# Altium integrated library Motorola Microcontroller 32-Bit.IntLib: 337 symbols (part 3 of 29)
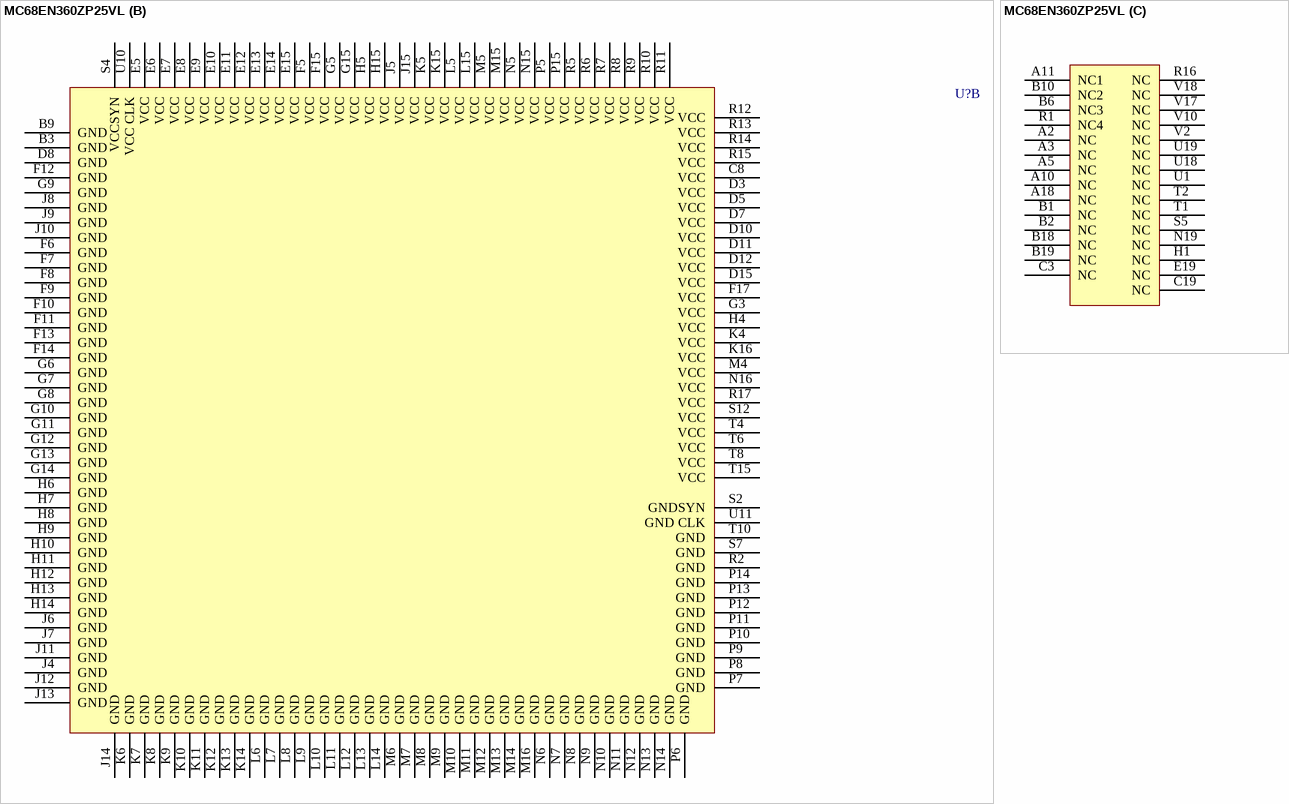
[diagram p242: symbol MC68EN360ZP25VL]

## MC68EN360ZP25VL
designator U?
Quad Integrated Communication Controller; Note: Footprint departs from the JEDEC JC-11 standard. The letter 's' is used to mark one of the rows.; Published: 21-Mar-2003; LatestRevisionDate: 13-Apr-2006; LatestRevisionNote: IPC-7351 Footprint Added.; DatasheetVersion: Jan-1995; PackageVersion: Sep-2002; PackageReference: 1103-01A; Publisher: Altium Limited; PackageDescription: 357-Ball Ball Grid Array 1.27 mm Pitch; ComponentLink1Description: Manufacturer Link; ComponentLink1URL: http://www.freescale.com/; ComponentLink2Description: Datasheet; ComponentLink2URL: http://www.freescale.com/files/32bit/doc/data_sheet/MC68360.pdf
footprint 1103-01 (BGA, 357-Leads, Body 25x25mm, Pitch 1.27mm)
3D model MC68EN360-1103-01 (357-Ball Ball Grid Array 1.27 mm Pitch)
part A pins: A4 ~{CAS}1/~{IACK}2 (out), A6 ~{DSACK}0/~{TB}I (io), A7 PRTY2/~{IOUT}0/~{RQOUT} (io), A8 PRTY0/~{IOUT}2 (io), A9 ~{IPIPE}1/~{RAS1DD}/~{BCLRI} (io), A12 ~{BR} (in), A13 ~{IRQ}4/~{IOUT}1 (io), A14 ~{RESETH} (io), A15 TDI (in), A16 ~{RMC}/CONFIG0/~{LOCK} (in), A17 ~{BERR}/~{TEA} (io), B4 ~{CAS}2/~{IACK}3 (out), B5 FREEZE/CONFIG2/~{MBARE} (out), B7 PRTY3/16~{BM} (io), B8 PRTY1/~{IOUT}1 (io), B11 ~{OE}/AMUX (out), B12 ~{BG} (io), B13 ~{IRQ}6/~{IOUT}2 (io), B14 ~{TRST} (in), B15 TDO (hiz), B16 ~{RESET}S (io), B17 ~{IRQ}1/~{IOUT}0/~{RQOUT} (io), C1 ~{CS}2/~{RAS}2 (io), C2 ~{CS}1/~{RAS}1 (io), C4 ~{CAS}3/~{IACK}6 (out), C5 ~{CAS}0/~{IACK}1 (out), C6 R/~{W} (out), C7 ~{DSACK}1/~{TA} (io), C9 ~{AS} (io), C10 ~{BCLRO}/CONFIG1/~{RAS2DD} (io), C11 ~{IFETCH}/BADD3/DSI (io), C12 ~{BGACK}/~{BB} (io), C13 ~{BKPT}/~{BKPTO}/DSCLK (io), C14 TMS (in), C15 ~{AVEC}/~{IACK}5/~{AVECO} (io), C16 ~{HALT} (io), C17 ~{IRQ}5 (in), C18 ~{IRQ}2 (in), D1 ~{CS}5/~{RAS}5 (io), D2 ~{CS}4/~{RAS}4 (io), D4 ~{CS}0/~{RAS}0 (io), D6 ~{DS}/TT1 (io), D9 ~{IPIPE}0/BADD2/DSO (out), D13 TCK (in), D14 ~{PERR} (out), D16 ~{IRQ}3 (in), D17 PC0/L1ST1/~{RTS}1 (io), D18 PC2/L1ST3/~{L1RQB}/~{RTS}3 (io), D19 PC3/L1ST4/~{L1RQA}/~{RTS}4 (io), E1 ~{TRIS}/~{TS} (in), E2 ~{CS}7/~{RAS}7/~{IACK}7 (io), E3 ~{CS}6/~{RAS}6 (io), E4 ~{CS}3/~{RAS}3 (io), E16 PC1/L1ST2/~{RTS}2 (io), E17 PC4/~{CTS}1 (io), E18 PC5/~{TGATE}1/~{CD}1 (io), F1 A3 (io), F2 A1 (io), F3 A0 (io), F4 ~{IRQ}7 (in), F16 PC6/~{CTS}2 (io), F18 PC7/~{TGATE}2/~{CD}2 (io), F19 PC8/~{SDACK}2/L1TSYNCB/~{CTS}3 (io), G1 A5 (io), G2 A4 (io), G4 A2 (io), G16 PC9/L1RSYNCB/~{CD}3 (io), G17 PC10/~{SDACK}1/L1TSYNCA/~{CTS}4 (io), G18 PC11/L1RSYNCA/~{CD}4 (io), G19 PB0/~{RRJCT}1/~{SPISEL} (io), H2 A7 (io), H3 A6 (io), H16 PB1/~{RSTRT}2/SPICLK (io), H17 PB2/~{RRJCT}2/SPIMOSI(SPITXD) (io), H18 PB3/BRGO4/SPIMISO(SPIRXD) (io), H19 PB4/~{DREQ}1/BRGO1 (io), J1 A8 (io), J2 A10 (io), J3 A9 (io), J16 PB6/~{DONE}1/SMTXD1 (io), J17 PB7/~{DONE}2/SMRXD1 (io), J18 PB5/~{DACK}1/BRGO2 (io), J19 PB8/~{DREQ}2/~{SMSYN}1 (io), K1 A11 (io), K2 A13 (io), K3 A12 (io), K17 PB10/L1CLKOB/SMTXD2 (io), K18 PB9/~{DACK}2/~{SMSYN}2 (io), K19 PB11/L1CLKOA/SMRXD2 (io), L1 A14 (io), L2 A17 (io), L3 A15 (io), L4 A16 (io), L16 PB14/L1ST3/~{L1RQB}/~{RTS}3 (io), L17 PB13/L1ST2/~{RTS}2 (io), L18 PB12/L1ST1/~{RTS}1 (io), L19 PB15/L1ST4/~{L1RQA}/~{RTS}4 (io), M1 A18 (io), M2 A19 (io), M3 A20 (io), M17 PA0/RXD1 (io), M18 PB17/STRBI/~{RSTRT}1 (io), M19 PB16/STRBO/BRGO3 (io), N1 A21 (io), N2 A22 (io), N3 A23 (io), N4 A25 (io), N17 PA2/RXD2 (io), N18 PA1/TXD1 (io), P1 A24 (io), P2 A26 (io), P3 A27 (io), P4 XTAL, P16 PA7/L1RXDA/TXD4 (io), P17 PA5/L1RXDB/TXD3 (io), P18 PA4/L1TXDB/RXD3 (io), P19 PA3/TXD2 (io), R3 MODCK1 (in), R4 EXTAL, R18 PA8/TIN1/L1RCLKA/BRGO1/CLK1 (io), R19 PA6/L1TXDA/RXD4 (io), S1 MODCK0 (in), S3 XFC, S6 FC2/TM2 (io), S8 D26 (io), S9 D22 (io), S10 CLKO1 (out), S11 D19 (io), S13 D11 (io), S14 D5 (io), S15 D0 (io), S16 PA15/L1TCLKB/~{TOUT}4/CLK8 (io), S17 PA11/~{TOUT}2/CLK4 (io), S18 PA10/TIN2/L1TCLKA/BRGO2/CLK3 (io), S19 PA9/BRGCLK1/~{TOUT}1/CLK2 (io), T3 A29/~{WE}2 (io), T5 FC0/TM0 (io), T7 D29 (io), T9 D21 (io), T11 CLKO2 (out), T12 D15 (io), T13 D12 (io), T14 D8 (io), T16 D2 (io), T17 PA14/TIN4/BRGO4/CLK7 (io), T18 PA13/BRGCLK2/L1RCLKB/~{TOUT}3/~{CLK}6 (io), T19 PA12/TIN3/BRGO3/CLK5 (io), U2 A28/~{WE}3 (io), U3 A30/~{WE}1 (io), U4 SIZ0 (io), U5 FC1/TM1 (io), U6 D31 (io), U7 D28 (io), U8 D25 (io), U9 D20 (io), U12 D16 (io), U13 D13 (io), U14 D9 (io), U15 D6 (io), U16 D3 (io), U17 D1 (io), V3 A31/~{WE}0 (io), V4 SIZ1 (io), V5 FC3/TT0 (io), V6 D30 (io), V7 D27 (io), V8 D24 (io), V9 D23 (io), V11 D18 (io), V12 D17 (io), V13 D14 (io), V14 D10 (io), V15 D7 (io), V16 D4 (io)
part B pins: B3 GND (power), B9 GND (power), C8 VCC (power), D3 VCC (power), D5 VCC (power), D7 VCC (power), D8 GND (power), D10 VCC (power), D11 VCC (power), D12 VCC (power), D15 VCC (power), E5 VCC (power), E6 VCC (power), E7 VCC (power), E8 VCC (power), E9 VCC (power), E10 VCC (power), E11 VCC (power), E12 VCC (power), E13 VCC (power), E14 VCC (power), E15 VCC (power), F5 VCC (power), F6 GND (power), F7 GND (power), F8 GND (power), F9 GND (power), F10 GND (power), F11 GND (power), F12 GND (power), F13 GND (power), F14 GND (power), F15 VCC (power), F17 VCC (power), G3 VCC (power), G5 VCC (power), G6 GND (power), G7 GND (power), G8 GND (power), G9 GND (power), G10 GND (power), G11 GND (power), G12 GND (power), G13 GND (power), G14 GND (power), G15 VCC (power), H4 VCC (power), H5 VCC (power), H6 GND (power), H7 GND (power), H8 GND (power), H9 GND (power), H10 GND (power), H11 GND (power), H12 GND (power), H13 GND (power), H14 GND (power), H15 VCC (power), J4 GND (power), J5 VCC (power), J6 GND (power), J7 GND (power), J8 GND (power), J9 GND (power), J10 GND (power), J11 GND (power), J12 GND (power), J13 GND (power), J14 GND (power), J15 VCC (power), K4 VCC (power), K5 VCC (power), K6 GND (power), K7 GND (power), K8 GND (power), K9 GND (power), K10 GND (power), K11 GND (power), K12 GND (power), K13 GND (power), K14 GND (power), K15 VCC (power), K16 VCC (power), L5 VCC (power), L6 GND (power), L7 GND (power), L8 GND (power), L9 GND (power), L10 GND (power), L11 GND (power), L12 GND (power), L13 GND (power), L14 GND (power), L15 VCC (power), M4 VCC (power), M5 VCC (power), M6 GND (power), M7 GND (power), M8 GND (power), M9 GND (power), M10 GND (power), M11 GND (power), M12 GND (power), M13 GND (power), M14 GND (power), M15 VCC (power), M16 GND (power), N5 VCC (power), N6 GND (power), N7 GND (power), N8 GND (power), N9 GND (power), N10 GND (power), N11 GND (power), N12 GND (power), N13 GND (power), N14 GND (power), N15 VCC (power), N16 VCC (power), P5 VCC (power), P6 GND (power), P7 GND (power), P8 GND (power), P9 GND (power), P10 GND (power), P11 GND (power), P12 GND (power), P13 GND (power), P14 GND (power), P15 VCC (power), R2 GND (power), R5 VCC (power), R6 VCC (power), R7 VCC (power), R8 VCC (power), R9 VCC (power), R10 VCC (power), R11 VCC (power), R12 VCC (power), R13 VCC (power), R14 VCC (power), R15 VCC (power), R17 VCC (power), S2 GNDSYN (power), S4 VCCSYN (power), S7 GND (power), S12 VCC (power), T4 VCC (power), T6 VCC (power), T8 VCC (power), T10 GND (power), T15 VCC (power), U10 VCC CLK (power), U11 GND CLK (power)
part C pins: A2 NC, A3 NC, A5 NC, A10 NC, A11 NC1, A18 NC, B1 NC, B2 NC, B6 NC3, B10 NC2, B18 NC, B19 NC, C3 NC, C19 NC, E19 NC, H1 NC, N19 NC, R1 NC4, R16 NC, S5 NC, T1 NC, T2 NC, U1 NC, U18 NC, U19 NC, V2 NC, V10 NC, V17 NC, V18 NC

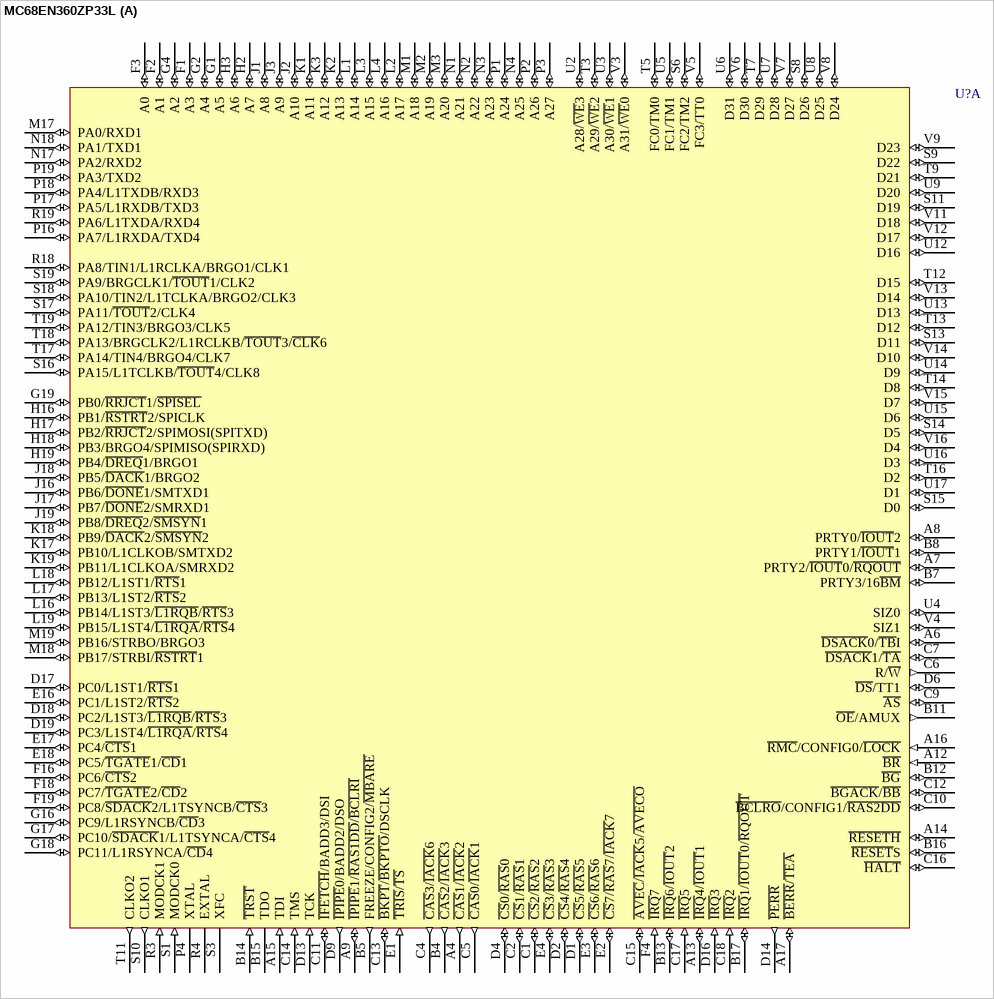
[diagram p27: symbol MC68EN360ZP33L]

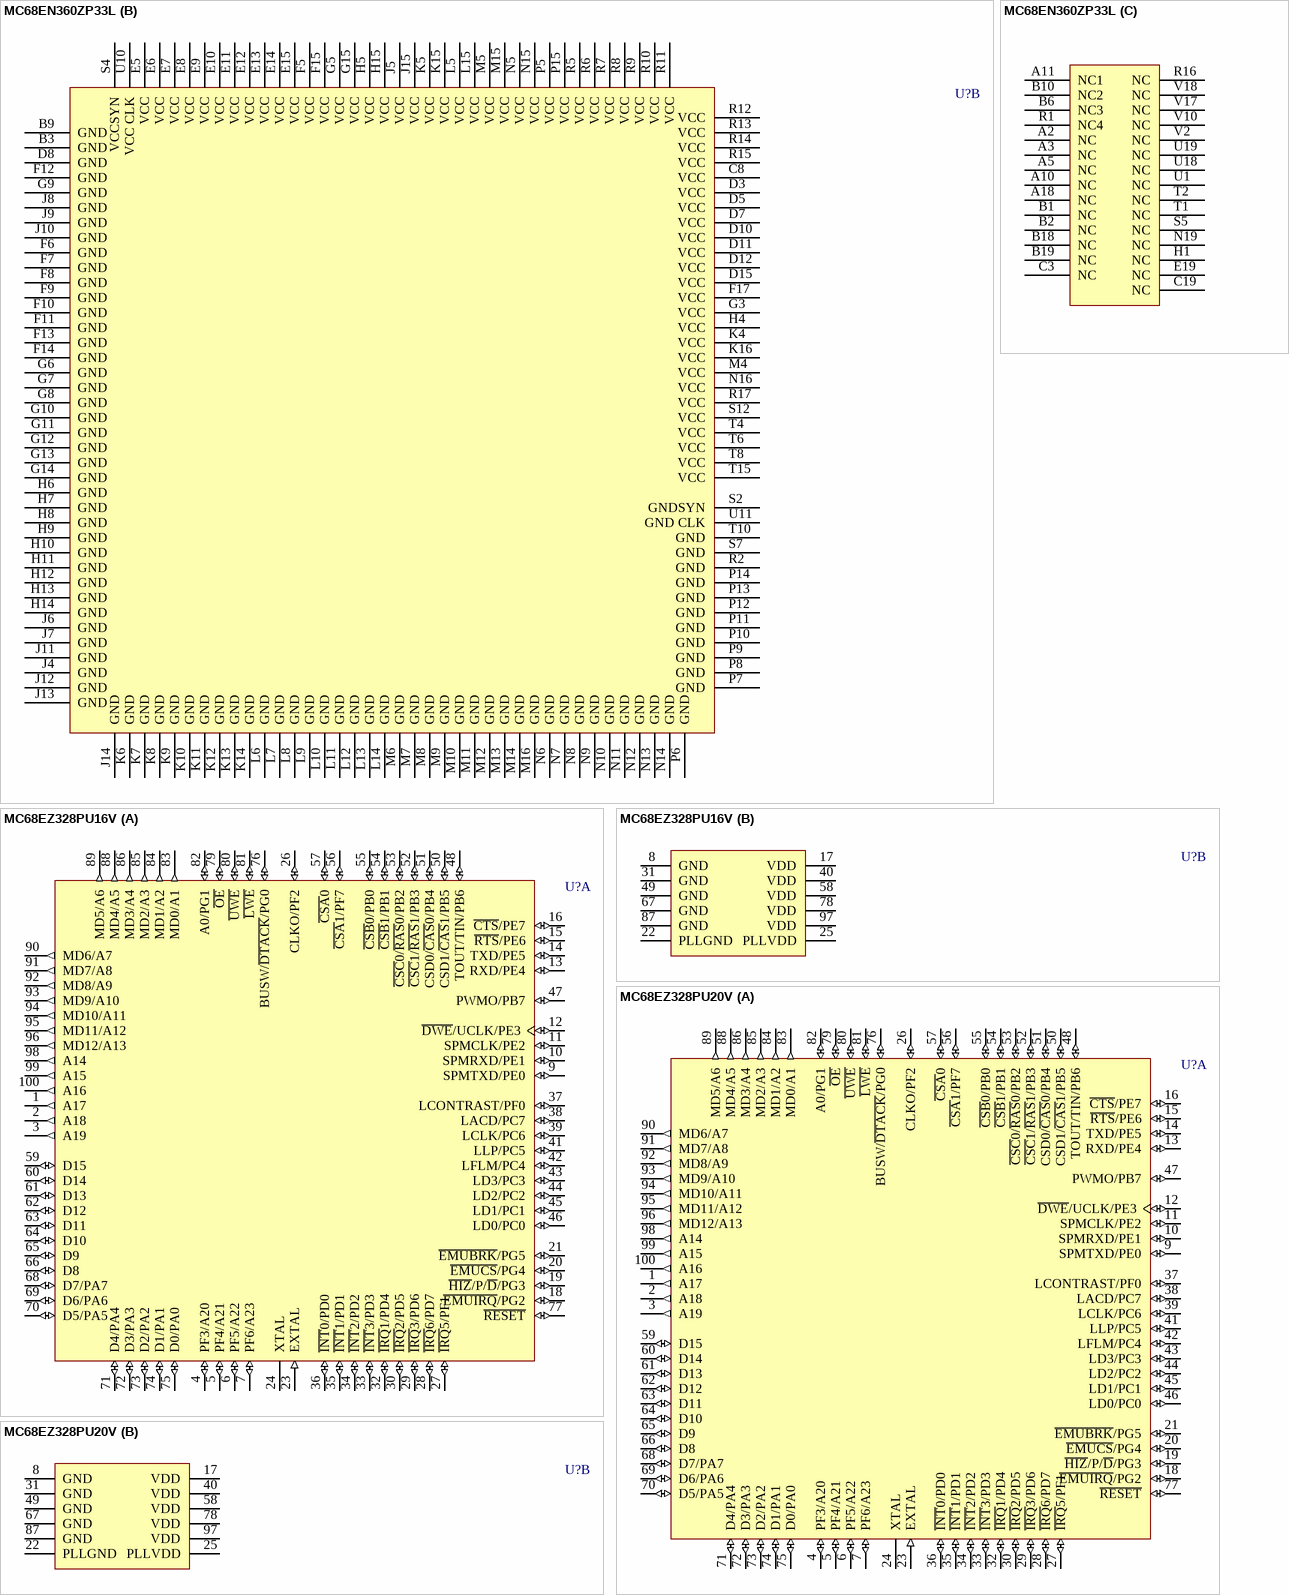
[diagram p28: symbols MC68EN360ZP33L to MC68EZ328PU20V]

## MC68EN360ZP33L
designator U?
Quad Integrated Communication Controller; Note: Footprint departs from the JEDEC JC-11 standard. The letter 's' is used to mark one of the rows.; Published: 21-Mar-2003; LatestRevisionDate: 13-Apr-2006; LatestRevisionNote: IPC-7351 Footprint Added.; DatasheetVersion: Jan-1995; PackageVersion: Sep-2002; PackageReference: 1103-01A; Publisher: Altium Limited; PackageDescription: 357-Ball Ball Grid Array 1.27 mm Pitch; ComponentLink1Description: Manufacturer Link; ComponentLink1URL: http://www.freescale.com/; ComponentLink2Description: Datasheet; ComponentLink2URL: http://www.freescale.com/files/32bit/doc/data_sheet/MC68360.pdf
footprint 1103-01 (BGA, 357-Leads, Body 25x25mm, Pitch 1.27mm)
3D model MC68EN360-1103-01 (357-Ball Ball Grid Array 1.27 mm Pitch)
part A pins: A4 ~{CAS}1/~{IACK}2 (out), A6 ~{DSACK}0/~{TB}I (io), A7 PRTY2/~{IOUT}0/~{RQOUT} (io), A8 PRTY0/~{IOUT}2 (io), A9 ~{IPIPE}1/~{RAS1DD}/~{BCLRI} (io), A12 ~{BR} (in), A13 ~{IRQ}4/~{IOUT}1 (io), A14 ~{RESETH} (io), A15 TDI (in), A16 ~{RMC}/CONFIG0/~{LOCK} (in), A17 ~{BERR}/~{TEA} (io), B4 ~{CAS}2/~{IACK}3 (out), B5 FREEZE/CONFIG2/~{MBARE} (out), B7 PRTY3/16~{BM} (io), B8 PRTY1/~{IOUT}1 (io), B11 ~{OE}/AMUX (out), B12 ~{BG} (io), B13 ~{IRQ}6/~{IOUT}2 (io), B14 ~{TRST} (in), B15 TDO (hiz), B16 ~{RESET}S (io), B17 ~{IRQ}1/~{IOUT}0/~{RQOUT} (io), C1 ~{CS}2/~{RAS}2 (io), C2 ~{CS}1/~{RAS}1 (io), C4 ~{CAS}3/~{IACK}6 (out), C5 ~{CAS}0/~{IACK}1 (out), C6 R/~{W} (out), C7 ~{DSACK}1/~{TA} (io), C9 ~{AS} (io), C10 ~{BCLRO}/CONFIG1/~{RAS2DD} (io), C11 ~{IFETCH}/BADD3/DSI (io), C12 ~{BGACK}/~{BB} (io), C13 ~{BKPT}/~{BKPTO}/DSCLK (io), C14 TMS (in), C15 ~{AVEC}/~{IACK}5/~{AVECO} (io), C16 ~{HALT} (io), C17 ~{IRQ}5 (in), C18 ~{IRQ}2 (in), D1 ~{CS}5/~{RAS}5 (io), D2 ~{CS}4/~{RAS}4 (io), D4 ~{CS}0/~{RAS}0 (io), D6 ~{DS}/TT1 (io), D9 ~{IPIPE}0/BADD2/DSO (out), D13 TCK (in), D14 ~{PERR} (out), D16 ~{IRQ}3 (in), D17 PC0/L1ST1/~{RTS}1 (io), D18 PC2/L1ST3/~{L1RQB}/~{RTS}3 (io), D19 PC3/L1ST4/~{L1RQA}/~{RTS}4 (io), E1 ~{TRIS}/~{TS} (in), E2 ~{CS}7/~{RAS}7/~{IACK}7 (io), E3 ~{CS}6/~{RAS}6 (io), E4 ~{CS}3/~{RAS}3 (io), E16 PC1/L1ST2/~{RTS}2 (io), E17 PC4/~{CTS}1 (io), E18 PC5/~{TGATE}1/~{CD}1 (io), F1 A3 (io), F2 A1 (io), F3 A0 (io), F4 ~{IRQ}7 (in), F16 PC6/~{CTS}2 (io), F18 PC7/~{TGATE}2/~{CD}2 (io), F19 PC8/~{SDACK}2/L1TSYNCB/~{CTS}3 (io), G1 A5 (io), G2 A4 (io), G4 A2 (io), G16 PC9/L1RSYNCB/~{CD}3 (io), G17 PC10/~{SDACK}1/L1TSYNCA/~{CTS}4 (io), G18 PC11/L1RSYNCA/~{CD}4 (io), G19 PB0/~{RRJCT}1/~{SPISEL} (io), H2 A7 (io), H3 A6 (io), H16 PB1/~{RSTRT}2/SPICLK (io), H17 PB2/~{RRJCT}2/SPIMOSI(SPITXD) (io), H18 PB3/BRGO4/SPIMISO(SPIRXD) (io), H19 PB4/~{DREQ}1/BRGO1 (io), J1 A8 (io), J2 A10 (io), J3 A9 (io), J16 PB6/~{DONE}1/SMTXD1 (io), J17 PB7/~{DONE}2/SMRXD1 (io), J18 PB5/~{DACK}1/BRGO2 (io), J19 PB8/~{DREQ}2/~{SMSYN}1 (io), K1 A11 (io), K2 A13 (io), K3 A12 (io), K17 PB10/L1CLKOB/SMTXD2 (io), K18 PB9/~{DACK}2/~{SMSYN}2 (io), K19 PB11/L1CLKOA/SMRXD2 (io), L1 A14 (io), L2 A17 (io), L3 A15 (io), L4 A16 (io), L16 PB14/L1ST3/~{L1RQB}/~{RTS}3 (io), L17 PB13/L1ST2/~{RTS}2 (io), L18 PB12/L1ST1/~{RTS}1 (io), L19 PB15/L1ST4/~{L1RQA}/~{RTS}4 (io), M1 A18 (io), M2 A19 (io), M3 A20 (io), M17 PA0/RXD1 (io), M18 PB17/STRBI/~{RSTRT}1 (io), M19 PB16/STRBO/BRGO3 (io), N1 A21 (io), N2 A22 (io), N3 A23 (io), N4 A25 (io), N17 PA2/RXD2 (io), N18 PA1/TXD1 (io), P1 A24 (io), P2 A26 (io), P3 A27 (io), P4 XTAL, P16 PA7/L1RXDA/TXD4 (io), P17 PA5/L1RXDB/TXD3 (io), P18 PA4/L1TXDB/RXD3 (io), P19 PA3/TXD2 (io), R3 MODCK1 (in), R4 EXTAL, R18 PA8/TIN1/L1RCLKA/BRGO1/CLK1 (io), R19 PA6/L1TXDA/RXD4 (io), S1 MODCK0 (in), S3 XFC, S6 FC2/TM2 (io), S8 D26 (io), S9 D22 (io), S10 CLKO1 (out), S11 D19 (io), S13 D11 (io), S14 D5 (io), S15 D0 (io), S16 PA15/L1TCLKB/~{TOUT}4/CLK8 (io), S17 PA11/~{TOUT}2/CLK4 (io), S18 PA10/TIN2/L1TCLKA/BRGO2/CLK3 (io), S19 PA9/BRGCLK1/~{TOUT}1/CLK2 (io), T3 A29/~{WE}2 (io), T5 FC0/TM0 (io), T7 D29 (io), T9 D21 (io), T11 CLKO2 (out), T12 D15 (io), T13 D12 (io), T14 D8 (io), T16 D2 (io), T17 PA14/TIN4/BRGO4/CLK7 (io), T18 PA13/BRGCLK2/L1RCLKB/~{TOUT}3/~{CLK}6 (io), T19 PA12/TIN3/BRGO3/CLK5 (io), U2 A28/~{WE}3 (io), U3 A30/~{WE}1 (io), U4 SIZ0 (io), U5 FC1/TM1 (io), U6 D31 (io), U7 D28 (io), U8 D25 (io), U9 D20 (io), U12 D16 (io), U13 D13 (io), U14 D9 (io), U15 D6 (io), U16 D3 (io), U17 D1 (io), V3 A31/~{WE}0 (io), V4 SIZ1 (io), V5 FC3/TT0 (io), V6 D30 (io), V7 D27 (io), V8 D24 (io), V9 D23 (io), V11 D18 (io), V12 D17 (io), V13 D14 (io), V14 D10 (io), V15 D7 (io), V16 D4 (io)
part B pins: B3 GND (power), B9 GND (power), C8 VCC (power), D3 VCC (power), D5 VCC (power), D7 VCC (power), D8 GND (power), D10 VCC (power), D11 VCC (power), D12 VCC (power), D15 VCC (power), E5 VCC (power), E6 VCC (power), E7 VCC (power), E8 VCC (power), E9 VCC (power), E10 VCC (power), E11 VCC (power), E12 VCC (power), E13 VCC (power), E14 VCC (power), E15 VCC (power), F5 VCC (power), F6 GND (power), F7 GND (power), F8 GND (power), F9 GND (power), F10 GND (power), F11 GND (power), F12 GND (power), F13 GND (power), F14 GND (power), F15 VCC (power), F17 VCC (power), G3 VCC (power), G5 VCC (power), G6 GND (power), G7 GND (power), G8 GND (power), G9 GND (power), G10 GND (power), G11 GND (power), G12 GND (power), G13 GND (power), G14 GND (power), G15 VCC (power), H4 VCC (power), H5 VCC (power), H6 GND (power), H7 GND (power), H8 GND (power), H9 GND (power), H10 GND (power), H11 GND (power), H12 GND (power), H13 GND (power), H14 GND (power), H15 VCC (power), J4 GND (power), J5 VCC (power), J6 GND (power), J7 GND (power), J8 GND (power), J9 GND (power), J10 GND (power), J11 GND (power), J12 GND (power), J13 GND (power), J14 GND (power), J15 VCC (power), K4 VCC (power), K5 VCC (power), K6 GND (power), K7 GND (power), K8 GND (power), K9 GND (power), K10 GND (power), K11 GND (power), K12 GND (power), K13 GND (power), K14 GND (power), K15 VCC (power), K16 VCC (power), L5 VCC (power), L6 GND (power), L7 GND (power), L8 GND (power), L9 GND (power), L10 GND (power), L11 GND (power), L12 GND (power), L13 GND (power), L14 GND (power), L15 VCC (power), M4 VCC (power), M5 VCC (power), M6 GND (power), M7 GND (power), M8 GND (power), M9 GND (power), M10 GND (power), M11 GND (power), M12 GND (power), M13 GND (power), M14 GND (power), M15 VCC (power), M16 GND (power), N5 VCC (power), N6 GND (power), N7 GND (power), N8 GND (power), N9 GND (power), N10 GND (power), N11 GND (power), N12 GND (power), N13 GND (power), N14 GND (power), N15 VCC (power), N16 VCC (power), P5 VCC (power), P6 GND (power), P7 GND (power), P8 GND (power), P9 GND (power), P10 GND (power), P11 GND (power), P12 GND (power), P13 GND (power), P14 GND (power), P15 VCC (power), R2 GND (power), R5 VCC (power), R6 VCC (power), R7 VCC (power), R8 VCC (power), R9 VCC (power), R10 VCC (power), R11 VCC (power), R12 VCC (power), R13 VCC (power), R14 VCC (power), R15 VCC (power), R17 VCC (power), S2 GNDSYN (power), S4 VCCSYN (power), S7 GND (power), S12 VCC (power), T4 VCC (power), T6 VCC (power), T8 VCC (power), T10 GND (power), T15 VCC (power), U10 VCC CLK (power), U11 GND CLK (power)
part C pins: A2 NC, A3 NC, A5 NC, A10 NC, A11 NC1, A18 NC, B1 NC, B2 NC, B6 NC3, B10 NC2, B18 NC, B19 NC, C3 NC, C19 NC, E19 NC, H1 NC, N19 NC, R1 NC4, R16 NC, S5 NC, T1 NC, T2 NC, U1 NC, U18 NC, U19 NC, V2 NC, V10 NC, V17 NC, V18 NC

## MC68EZ328PU16V
designator U?
Integrated Processor; Published: 21-Mar-2003; LatestRevisionDate: 13-Apr-2006; LatestRevisionNote: IPC-7351 Footprint Added.; DatasheetVersion: Nov-1998; PackageVersion: 1999; PackageReference: 983-01; Publisher: Altium Limited; PackageDescription: 100-Pin Thin Quad Flat Pack 0.5 mm Pitch; ComponentLink1Description: Manufacturer Link; ComponentLink1URL: http://www.freescale.com/
footprint 983-01_N (Thin QFP, 100-Leads, Body 14x14mm, Pitch 0.5mm, IPC Medium Density)
footprint 983-01_L (Thin QFP, 100-Leads, Body 14x14mm, Pitch 0.5mm, IPC High Density)
footprint 983-01_M (Thin QFP, 100-Leads, Body 14x14mm, Pitch 0.5mm, IPC Low Density)
3D model MC68EZ328-983 (100-Pin Thin Quad Flat Pack 0.5 mm Pitch)
part A pins: 1 A17 (out), 2 A18 (out), 3 A19 (out), 4 PF3/A20 (io), 5 PF4/A21 (io), 6 PF5/A22 (io), 7 PF6/A23 (io), 9 SPMTXD/PE0 (io), 10 SPMRXD/PE1 (io), 11 SPMCLK/PE2 (io), 12 ~{DWE}/UCLK/PE3 (io), 13 RXD/PE4 (io), 14 TXD/PE5 (io), 15 ~{RTS}/PE6 (io), 16 ~{CTS}/PE7 (io), 18 ~{EMUIRQ}/PG2 (io), 19 ~{HIZ}/P/~{D}/PG3 (io), 20 ~{EMUCS}/PG4 (io), 21 ~{EMUBRK}/PG5 (io), 23 EXTAL (in), 24 XTAL, 26 CLKO/PF2 (io), 27 ~{IRQ}5/PF1 (io), 28 ~{IRQ}6/PD7 (io), 29 ~{IRQ}3/PD6 (io), 30 ~{IRQ}2/PD5 (io), 32 ~{IRQ}1/PD4 (io), 33 ~{INT}3/PD3 (io), 34 ~{INT}2/PD2 (io), 35 ~{INT}1/PD1 (io), 36 ~{INT}0/PD0 (io), 37 LCONTRAST/PF0 (io), 38 LACD/PC7 (io), 39 LCLK/PC6 (io), 41 LLP/PC5 (io), 42 LFLM/PC4 (io), 43 LD3/PC3 (io), 44 LD2/PC2 (io), 45 LD1/PC1 (io), 46 LD0/PC0 (io), 47 PWMO/PB7 (io), 48 TOUT/TIN/PB6 (io), 50 CSD1/~{CAS}1/PB5 (io), 51 CSD0/~{CAS}0/PB4 (io), 52 ~{CSC}1/~{RAS}1/PB3 (io), 53 ~{CSC}0/~{RAS}0/PB2 (io), 54 ~{CSB}1/PB1 (io), 55 ~{CSB}0/PB0 (io), 56 ~{CSA}1/PF7 (io), 57 ~{CSA}0 (io), 59 D15 (io), 60 D14 (io), 61 D13 (io), 62 D12 (io), 63 D11 (io), 64 D10 (io), 65 D9 (io), 66 D8 (io), 68 D7/PA7 (io), 69 D6/PA6 (io), 70 D5/PA5 (io), 71 D4/PA4 (io), 72 D3/PA3 (io), 73 D2/PA2 (io), 74 D1/PA1 (io), 75 D0/PA0 (io), 76 BUSW/~{DTACK}/PG0 (io), 77 ~{RESET} (io), 79 ~{OE} (io), 80 ~{UWE} (io), 81 ~{LWE} (io), 82 A0/PG1 (io), 83 MD0/A1 (out), 84 MD1/A2 (out), 85 MD2/A3 (out), 86 MD3/A4 (out), 88 MD4/A5 (out), 89 MD5/A6 (out), 90 MD6/A7 (out), 91 MD7/A8 (out), 92 MD8/A9 (out), 93 MD9/A10 (out), 94 MD10/A11 (out), 95 MD11/A12 (out), 96 MD12/A13 (out), 98 A14 (out), 99 A15 (out), 100 A16 (out)
part B pins: 8 GND (power), 17 VDD (power), 22 PLLGND (power), 25 PLLVDD (power), 31 GND (power), 40 VDD (power), 49 GND (power), 58 VDD (power), 67 GND (power), 78 VDD (power), 87 GND (power), 97 VDD (power)

## MC68EZ328PU20V
designator U?
Integrated Processor; Published: 21-Mar-2003; LatestRevisionDate: 13-Apr-2006; LatestRevisionNote: IPC-7351 Footprint Added.; DatasheetVersion: Nov-1998; PackageVersion: 1999; PackageReference: 983-01; Publisher: Altium Limited; PackageDescription: 100-Pin Thin Quad Flat Pack 0.5 mm Pitch; ComponentLink1Description: Manufacturer Link; ComponentLink1URL: http://www.freescale.com/
footprint 983-01_N (Thin QFP, 100-Leads, Body 14x14mm, Pitch 0.5mm, IPC Medium Density)
footprint 983-01_L (Thin QFP, 100-Leads, Body 14x14mm, Pitch 0.5mm, IPC High Density)
footprint 983-01_M (Thin QFP, 100-Leads, Body 14x14mm, Pitch 0.5mm, IPC Low Density)
3D model MC68EZ328-983 (100-Pin Thin Quad Flat Pack 0.5 mm Pitch)
part A pins: 1 A17 (out), 2 A18 (out), 3 A19 (out), 4 PF3/A20 (io), 5 PF4/A21 (io), 6 PF5/A22 (io), 7 PF6/A23 (io), 9 SPMTXD/PE0 (io), 10 SPMRXD/PE1 (io), 11 SPMCLK/PE2 (io), 12 ~{DWE}/UCLK/PE3 (io), 13 RXD/PE4 (io), 14 TXD/PE5 (io), 15 ~{RTS}/PE6 (io), 16 ~{CTS}/PE7 (io), 18 ~{EMUIRQ}/PG2 (io), 19 ~{HIZ}/P/~{D}/PG3 (io), 20 ~{EMUCS}/PG4 (io), 21 ~{EMUBRK}/PG5 (io), 23 EXTAL (in), 24 XTAL, 26 CLKO/PF2 (io), 27 ~{IRQ}5/PF1 (io), 28 ~{IRQ}6/PD7 (io), 29 ~{IRQ}3/PD6 (io), 30 ~{IRQ}2/PD5 (io), 32 ~{IRQ}1/PD4 (io), 33 ~{INT}3/PD3 (io), 34 ~{INT}2/PD2 (io), 35 ~{INT}1/PD1 (io), 36 ~{INT}0/PD0 (io), 37 LCONTRAST/PF0 (io), 38 LACD/PC7 (io), 39 LCLK/PC6 (io), 41 LLP/PC5 (io), 42 LFLM/PC4 (io), 43 LD3/PC3 (io), 44 LD2/PC2 (io), 45 LD1/PC1 (io), 46 LD0/PC0 (io), 47 PWMO/PB7 (io), 48 TOUT/TIN/PB6 (io), 50 CSD1/~{CAS}1/PB5 (io), 51 CSD0/~{CAS}0/PB4 (io), 52 ~{CSC}1/~{RAS}1/PB3 (io), 53 ~{CSC}0/~{RAS}0/PB2 (io), 54 ~{CSB}1/PB1 (io), 55 ~{CSB}0/PB0 (io), 56 ~{CSA}1/PF7 (io), 57 ~{CSA}0 (io), 59 D15 (io), 60 D14 (io), 61 D13 (io), 62 D12 (io), 63 D11 (io), 64 D10 (io), 65 D9 (io), 66 D8 (io), 68 D7/PA7 (io), 69 D6/PA6 (io), 70 D5/PA5 (io), 71 D4/PA4 (io), 72 D3/PA3 (io), 73 D2/PA2 (io), 74 D1/PA1 (io), 75 D0/PA0 (io), 76 BUSW/~{DTACK}/PG0 (io), 77 ~{RESET} (io), 79 ~{OE} (io), 80 ~{UWE} (io), 81 ~{LWE} (io), 82 A0/PG1 (io), 83 MD0/A1 (out), 84 MD1/A2 (out), 85 MD2/A3 (out), 86 MD3/A4 (out), 88 MD4/A5 (out), 89 MD5/A6 (out), 90 MD6/A7 (out), 91 MD7/A8 (out), 92 MD8/A9 (out), 93 MD9/A10 (out), 94 MD10/A11 (out), 95 MD11/A12 (out), 96 MD12/A13 (out), 98 A14 (out), 99 A15 (out), 100 A16 (out)
part B pins: 8 GND (power), 17 VDD (power), 22 PLLGND (power), 25 PLLVDD (power), 31 GND (power), 40 VDD (power), 49 GND (power), 58 VDD (power), 67 GND (power), 78 VDD (power), 87 GND (power), 97 VDD (power)

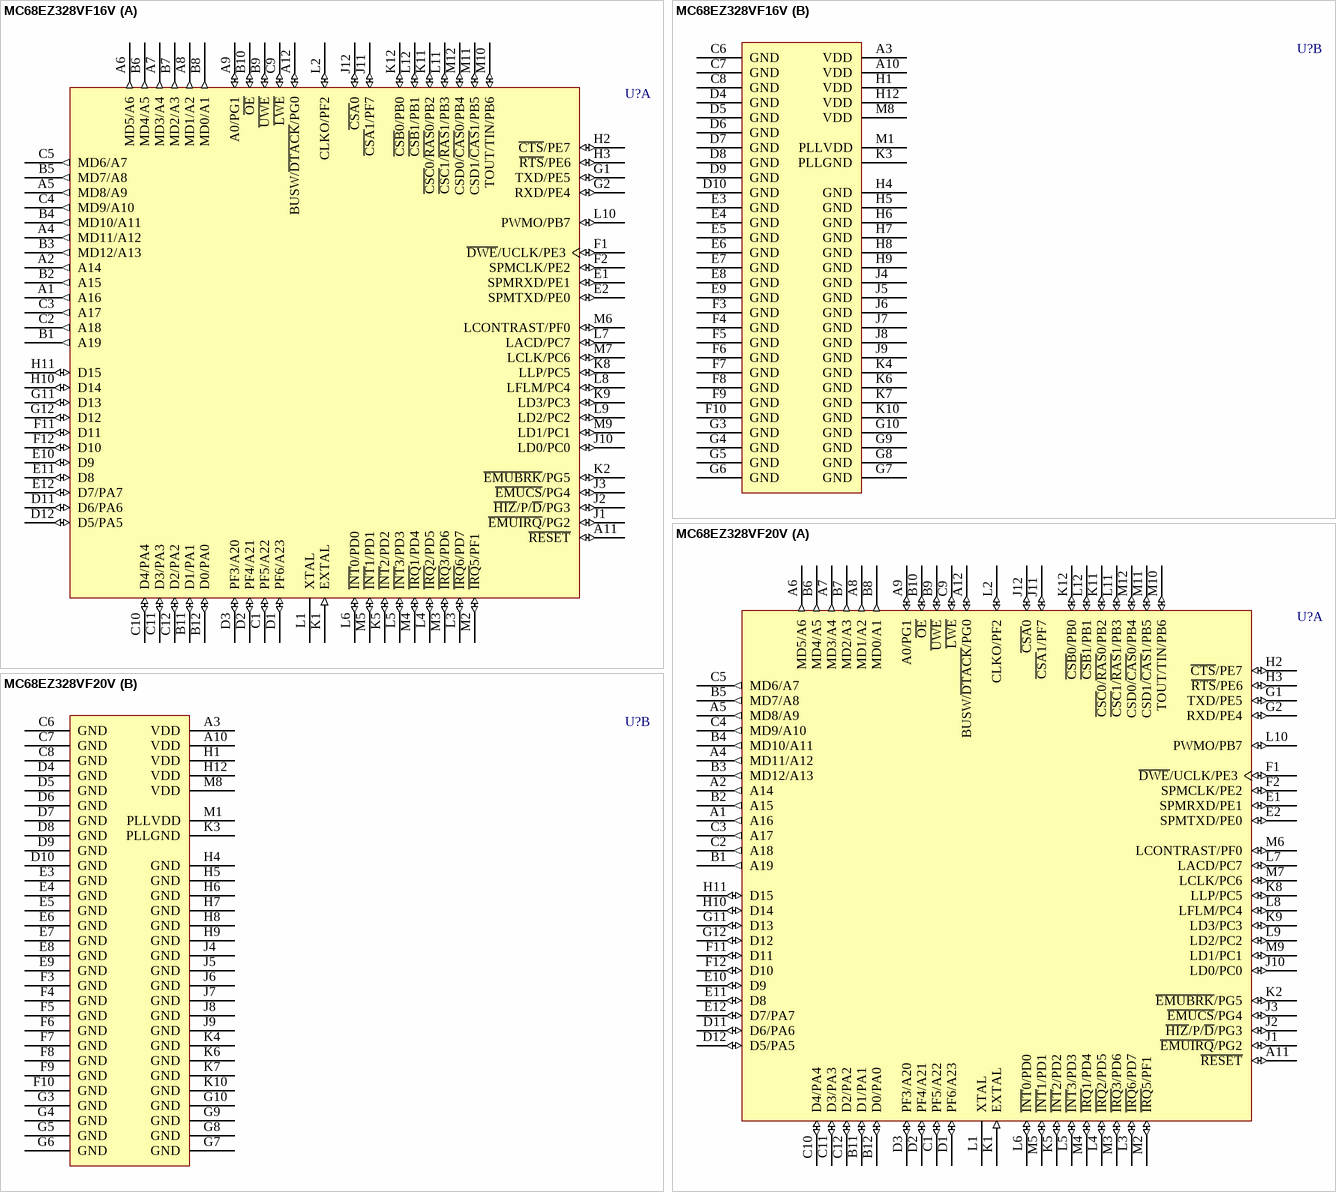
[diagram p29: symbols MC68EZ328VF16V to MC68EZ328VF20V]

## MC68EZ328VF16V
designator U?
Integrated Processor; Published: 21-Mar-2003; LatestRevisionDate: 13-Apr-2006; LatestRevisionNote: IPC-7351 Footprint Added.; DatasheetVersion: Nov-1998; PackageVersion: rev1, Jan-2002; PackageReference: 1242A-03; Publisher: Altium Limited; PackageDescription: 144-Ball MAP-Ball Grid Array 1 mm Pitch; ComponentLink1Description: Manufacturer Link; ComponentLink1URL: http://www.freescale.com/
footprint 1242A-03 (BGA, 144-Leads, Body 13x13mm, Pitch 1mm)
3D model MC68EZ328-1242A-03 (144-Ball MAP-Ball Grid Array 1 mm Pitch)
part A pins: A1 A16 (out), A2 A14 (out), A4 MD11/A12 (out), A5 MD8/A9 (out), A6 MD5/A6 (out), A7 MD3/A4 (out), A8 MD1/A2 (out), A9 A0/PG1 (io), A11 ~{RESET} (io), A12 BUSW/~{DTACK}/PG0 (io), B1 A19 (out), B2 A15 (out), B3 MD12/A13 (out), B4 MD10/A11 (out), B5 MD7/A8 (out), B6 MD4/A5 (out), B7 MD2/A3 (out), B8 MD0/A1 (out), B9 ~{UWE} (io), B10 ~{OE} (io), B11 D1/PA1 (io), B12 D0/PA0 (io), C1 PF5/A22 (io), C2 A18 (out), C3 A17 (out), C4 MD9/A10 (out), C5 MD6/A7 (out), C9 ~{LWE} (io), C10 D4/PA4 (io), C11 D3/PA3 (io), C12 D2/PA2 (io), D1 PF6/A23 (io), D2 PF4/A21 (io), D3 PF3/A20 (io), D11 D6/PA6 (io), D12 D5/PA5 (io), E1 SPMRXD/PE1 (io), E2 SPMTXD/PE0 (io), E10 D9 (io), E11 D8 (io), E12 D7/PA7 (io), F1 ~{DWE}/UCLK/PE3 (io), F2 SPMCLK/PE2 (io), F11 D11 (io), F12 D10 (io), G1 TXD/PE5 (io), G2 RXD/PE4 (io), G11 D13 (io), G12 D12 (io), H2 ~{CTS}/PE7 (io), H3 ~{RTS}/PE6 (io), H10 D14 (io), H11 D15 (io), J1 ~{EMUIRQ}/PG2 (io), J2 ~{HIZ}/P/~{D}/PG3 (io), J3 ~{EMUCS}/PG4 (io), J10 LD0/PC0 (io), J11 ~{CSA}1/PF7 (io), J12 ~{CSA}0 (io), K1 EXTAL (in), K2 ~{EMUBRK}/PG5 (io), K5 ~{INT}2/PD2 (io), K8 LLP/PC5 (io), K9 LD3/PC3 (io), K11 ~{CSC}0/~{RAS}0/PB2 (io), K12 ~{CSB}0/PB0 (io), L1 XTAL, L2 CLKO/PF2 (io), L3 ~{IRQ}6/PD7 (io), L4 ~{IRQ}2/PD5 (io), L5 ~{INT}3/PD3 (io), L6 ~{INT}0/PD0 (io), L7 LACD/PC7 (io), L8 LFLM/PC4 (io), L9 LD2/PC2 (io), L10 PWMO/PB7 (io), L11 ~{CSC}1/~{RAS}1/PB3 (io), L12 ~{CSB}1/PB1 (io), M2 ~{IRQ}5/PF1 (io), M3 ~{IRQ}3/PD6 (io), M4 ~{IRQ}1/PD4 (io), M5 ~{INT}1/PD1 (io), M6 LCONTRAST/PF0 (io), M7 LCLK/PC6 (io), M9 LD1/PC1 (io), M10 TOUT/TIN/PB6 (io), M11 CSD1/~{CAS}1/PB5 (io), M12 CSD0/~{CAS}0/PB4 (io)
part B pins: A3 VDD (power), A10 VDD (power), C6 GND (power), C7 GND (power), C8 GND (power), D4 GND (power), D5 GND (power), D6 GND (power), D7 GND (power), D8 GND (power), D9 GND (power), D10 GND (power), E3 GND (power), E4 GND (power), E5 GND (power), E6 GND (power), E7 GND (power), E8 GND (power), E9 GND (power), F3 GND (power), F4 GND (power), F5 GND (power), F6 GND (power), F7 GND (power), F8 GND (power), F9 GND (power), F10 GND (power), G3 GND (power), G4 GND (power), G5 GND (power), G6 GND (power), G7 GND (power), G8 GND (power), G9 GND (power), G10 GND (power), H1 VDD (power), H4 GND (power), H5 GND (power), H6 GND (power), H7 GND (power), H8 GND (power), H9 GND (power), H12 VDD (power), J4 GND (power), J5 GND (power), J6 GND (power), J7 GND (power), J8 GND (power), J9 GND (power), K3 PLLGND (power), K4 GND (power), K6 GND (power), K7 GND (power), K10 GND (power), M1 PLLVDD (power), M8 VDD (power)

## MC68EZ328VF20V
designator U?
Integrated Processor; Published: 21-Mar-2003; LatestRevisionDate: 13-Apr-2006; LatestRevisionNote: IPC-7351 Footprint Added.; DatasheetVersion: Nov-1998; PackageVersion: rev1, Jan-2002; PackageReference: 1242A-03; Publisher: Altium Limited; PackageDescription: 144-Ball MAP-Ball Grid Array 1 mm Pitch; ComponentLink1Description: Manufacturer Link; ComponentLink1URL: http://www.freescale.com/
footprint 1242A-03 (BGA, 144-Leads, Body 13x13mm, Pitch 1mm)
3D model MC68EZ328-1242A-03 (144-Ball MAP-Ball Grid Array 1 mm Pitch)
part A pins: A1 A16 (out), A2 A14 (out), A4 MD11/A12 (out), A5 MD8/A9 (out), A6 MD5/A6 (out), A7 MD3/A4 (out), A8 MD1/A2 (out), A9 A0/PG1 (io), A11 ~{RESET} (io), A12 BUSW/~{DTACK}/PG0 (io), B1 A19 (out), B2 A15 (out), B3 MD12/A13 (out), B4 MD10/A11 (out), B5 MD7/A8 (out), B6 MD4/A5 (out), B7 MD2/A3 (out), B8 MD0/A1 (out), B9 ~{UWE} (io), B10 ~{OE} (io), B11 D1/PA1 (io), B12 D0/PA0 (io), C1 PF5/A22 (io), C2 A18 (out), C3 A17 (out), C4 MD9/A10 (out), C5 MD6/A7 (out), C9 ~{LWE} (io), C10 D4/PA4 (io), C11 D3/PA3 (io), C12 D2/PA2 (io), D1 PF6/A23 (io), D2 PF4/A21 (io), D3 PF3/A20 (io), D11 D6/PA6 (io), D12 D5/PA5 (io), E1 SPMRXD/PE1 (io), E2 SPMTXD/PE0 (io), E10 D9 (io), E11 D8 (io), E12 D7/PA7 (io), F1 ~{DWE}/UCLK/PE3 (io), F2 SPMCLK/PE2 (io), F11 D11 (io), F12 D10 (io), G1 TXD/PE5 (io), G2 RXD/PE4 (io), G11 D13 (io), G12 D12 (io), H2 ~{CTS}/PE7 (io), H3 ~{RTS}/PE6 (io), H10 D14 (io), H11 D15 (io), J1 ~{EMUIRQ}/PG2 (io), J2 ~{HIZ}/P/~{D}/PG3 (io), J3 ~{EMUCS}/PG4 (io), J10 LD0/PC0 (io), J11 ~{CSA}1/PF7 (io), J12 ~{CSA}0 (io), K1 EXTAL (in), K2 ~{EMUBRK}/PG5 (io), K5 ~{INT}2/PD2 (io), K8 LLP/PC5 (io), K9 LD3/PC3 (io), K11 ~{CSC}0/~{RAS}0/PB2 (io), K12 ~{CSB}0/PB0 (io), L1 XTAL, L2 CLKO/PF2 (io), L3 ~{IRQ}6/PD7 (io), L4 ~{IRQ}2/PD5 (io), L5 ~{INT}3/PD3 (io), L6 ~{INT}0/PD0 (io), L7 LACD/PC7 (io), L8 LFLM/PC4 (io), L9 LD2/PC2 (io), L10 PWMO/PB7 (io), L11 ~{CSC}1/~{RAS}1/PB3 (io), L12 ~{CSB}1/PB1 (io), M2 ~{IRQ}5/PF1 (io), M3 ~{IRQ}3/PD6 (io), M4 ~{IRQ}1/PD4 (io), M5 ~{INT}1/PD1 (io), M6 LCONTRAST/PF0 (io), M7 LCLK/PC6 (io), M9 LD1/PC1 (io), M10 TOUT/TIN/PB6 (io), M11 CSD1/~{CAS}1/PB5 (io), M12 CSD0/~{CAS}0/PB4 (io)
part B pins: A3 VDD (power), A10 VDD (power), C6 GND (power), C7 GND (power), C8 GND (power), D4 GND (power), D5 GND (power), D6 GND (power), D7 GND (power), D8 GND (power), D9 GND (power), D10 GND (power), E3 GND (power), E4 GND (power), E5 GND (power), E6 GND (power), E7 GND (power), E8 GND (power), E9 GND (power), F3 GND (power), F4 GND (power), F5 GND (power), F6 GND (power), F7 GND (power), F8 GND (power), F9 GND (power), F10 GND (power), G3 GND (power), G4 GND (power), G5 GND (power), G6 GND (power), G7 GND (power), G8 GND (power), G9 GND (power), G10 GND (power), H1 VDD (power), H4 GND (power), H5 GND (power), H6 GND (power), H7 GND (power), H8 GND (power), H9 GND (power), H12 VDD (power), J4 GND (power), J5 GND (power), J6 GND (power), J7 GND (power), J8 GND (power), J9 GND (power), K3 PLLGND (power), K4 GND (power), K6 GND (power), K7 GND (power), K10 GND (power), M1 PLLVDD (power), M8 VDD (power)

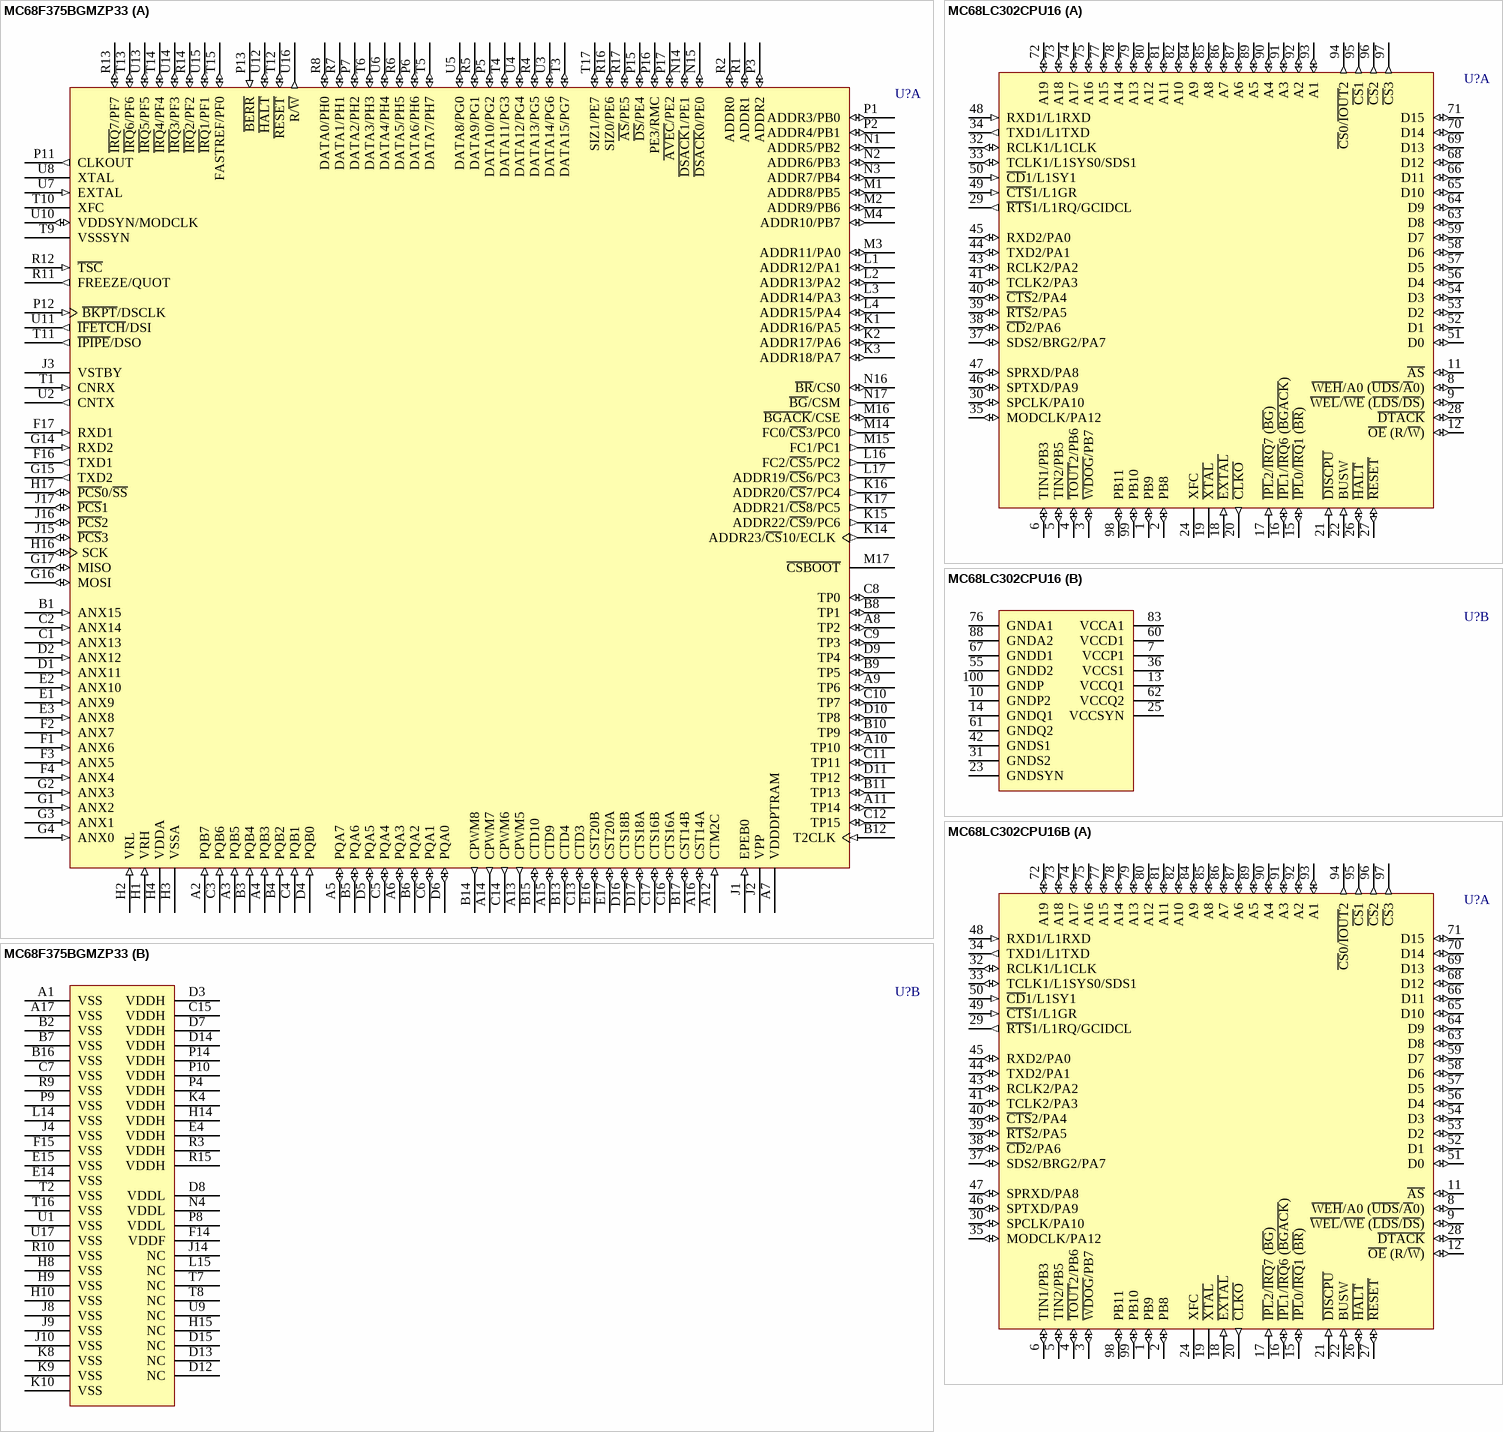
[diagram p30: symbols MC68F375BGMZP33 to MC68LC302CPU16B]

## MC68F375BGMZP33
designator U?
32-Bit Microcontroller; Published: 21-Mar-2003; LatestRevisionDate: 13-Apr-2006; LatestRevisionNote: IPC-7351 Footprint Added.; DatasheetVersion: 15-Oct-2000; PackageVersion: revO, 1997; PackageReference: 1145A-01; Publisher: Altium Limited; PackageDescription: 217-Ball Thermally Enhanced Ball Grid Array 1.27 mm Pitch; Code_JEDEC: MO-151-BAL-2; ComponentLink1Description: Manufacturer Link; ComponentLink1URL: http://www.freescale.com/
footprint 1145A-01 (BGA, 217-Leads, Body 23x23mm, Pitch 1.27mm)
3D model MC68F375-1145A-01 (217-Ball Thermally Enhanced Ball Grid Array 1.27 mm Pitch)
part A pins: A2 PQB7 (in), A3 PQB5 (in), A4 PQB3 (in), A5 PQA7 (io), A6 PQA3 (io), A7 VDDDPTRAM (power), A8 TP2 (io), A9 TP6 (io), A10 TP10 (io), A11 TP14 (io), A12 CTM2C (in), A13 CPWM5 (out), A14 CPWM7 (out), A15 CTD9 (io), A16 CST14A (io), B1 ANX15 (in), B3 PQB4 (in), B4 PQB2 (in), B5 PQA6 (io), B6 PQA2 (io), B8 TP1 (io), B9 TP5 (io), B10 TP9 (io), B11 TP13 (io), B12 T2CLK (in), B13 CTD4 (io), B14 CPWM8 (out), B15 CTD10 (io), B17 CST14B (io), C1 ANX13 (in), C2 ANX14 (in), C3 PQB6 (in), C4 PQB1 (in), C5 PQA4 (io), C6 PQA1 (io), C8 TP0 (io), C9 TP3 (io), C10 TP7 (io), C11 TP11 (io), C12 TP15 (io), C13 CTD3 (io), C14 CPWM6 (out), C16 CTS16A (io), C17 CTS16B (io), D1 ANX11 (in), D2 ANX12 (in), D4 PQB0 (in), D5 PQA5 (io), D6 PQA0 (io), D9 TP4 (io), D10 TP8 (io), D11 TP12 (io), D16 CTS18B (io), D17 CTS18A (io), E1 ANX9 (in), E2 ANX10 (in), E3 ANX8 (in), E16 CST20B (io), E17 CST20A (io), F1 ANX6 (in), F2 ANX7 (in), F3 ANX5 (in), F4 ANX4 (in), F16 TXD1 (out), F17 RXD1 (in), G1 ANX2 (in), G2 ANX3 (in), G3 ANX1 (in), G4 ANX0 (in), G14 RXD2 (in), G15 TXD2 (out), G16 MOSI (io), G17 MISO (io), H1 VRH (in), H2 VRL (in), H3 VSSA (power), H4 VDDA (power), H16 SCK (io), H17 ~{PCS}0/~{SS} (io), J1 EPEB0 (in), J2 VPP (power), J3 VSTBY (power), J15 ~{PCS}3 (io), J16 ~{PCS}2 (io), J17 ~{PCS}1 (io), K1 ADDR16/PA5 (io), K2 ADDR17/PA6 (io), K3 ADDR18/PA7 (io), K14 ADDR23/~{CS}10/ECLK (out), K15 ADDR22/~{CS}9/PC6 (out), K16 ADDR20/~{CS}7/PC4 (out), K17 ADDR21/~{CS}8/PC5 (out), L1 ADDR12/PA1 (io), L2 ADDR13/PA2 (io), L3 ADDR14/PA3 (io), L4 ADDR15/PA4 (io), L16 FC2/~{CS}5/PC2 (out), L17 ADDR19/~{CS}6/PC3 (out), M1 ADDR8/PB5 (io), M2 ADDR9/PB6 (io), M3 ADDR11/PA0 (io), M4 ADDR10/PB7 (io), M14 FC0/~{CS}3/PC0 (out), M15 FC1/PC1 (out), M16 ~{BGACK}/CSE (io), M17 ~{CSBOOT} (hiz), N1 ADDR5/PB2 (io), N2 ADDR6/PB3 (io), N3 ADDR7/PB4 (io), N14 ~{DSACK}1/PE1 (io), N15 ~{DSACK}0/PE0 (io), N16 ~{BR}/CS0 (io), N17 ~{BG}/CSM (out), P1 ADDR3/PB0 (io), P2 ADDR4/PB1 (io), P3 ADDR2 (io), P5 DATA10/PG2 (io), P6 DATA6/PH6 (io), P7 DATA2/PH2 (io), P11 CLKOUT (out), P12 ~{BKPT}/DSCLK (in), P13 ~{BERR} (in), P15 ~{DS}/PE4 (io), P16 PE3/RMC (io), P17 ~{AVEC}/PE2 (io), R1 ADDR1 (io), R2 ADDR0 (io), R4 DATA13/PG5 (io), R5 DATA9/PG1 (io), R6 DATA5/PH5 (io), R7 DATA1/PH1 (io), R8 DATA0/PH0 (io), R11 FREEZE/QUOT (out), R12 ~{TSC} (in), R13 ~{IRQ}7/PF7 (io), R14 ~{IRQ}2/PF2 (io), R16 SIZ0/PE6 (io), R17 ~{AS}/PE5 (io), T1 CNRX (in), T3 DATA15/PG7 (io), T4 DATA11/PG3 (io), T5 DATA7/PH7 (io), T6 DATA3/PH3 (io), T9 VSSSYN (power), T10 XFC, T11 ~{IPIPE}/DSO (out), T12 ~{RESET} (io), T13 ~{IRQ}6/PF6 (io), T14 ~{IRQ}4/PF4 (io), T15 FASTREF/PF0 (io), T17 SIZ1/PE7 (io), U2 CNTX (out), U3 DATA14/PG6 (io), U4 DATA12/PG4 (io), U5 DATA8/PG0 (io), U6 DATA4/PH4 (io), U7 EXTAL (in), U8 XTAL, U10 VDDSYN/MODCLK (io), U11 ~{IFETCH}/DSI (out), U12 ~{HALT} (io), U13 ~{IRQ}5/PF5 (io), U14 ~{IRQ}3/PF3 (io), U15 ~{IRQ}1/PF1 (io), U16 R/~{W} (out)
part B pins: A1 VSS (power), A17 VSS (power), B2 VSS (power), B7 VSS (power), B16 VSS (power), C7 VSS (power), C15 VDDH (power), D3 VDDH (power), D7 VDDH (power), D8 VDDL (power), D12 NC, D13 NC, D14 VDDH (power), D15 NC, E4 VDDH (power), E14 VSS (power), E15 VSS (power), F14 VDDF (power), F15 VSS (power), H8 VSS (power), H9 VSS (power), H10 VSS (power), H14 VDDH (power), H15 NC, J4 VSS (power), J8 VSS (power), J9 VSS (power), J10 VSS (power), J14 NC, K4 VDDH (power), K8 VSS (power), K9 VSS (power), K10 VSS (power), L14 VSS (power), L15 NC, N4 VDDL (power), P4 VDDH (power), P8 VDDL (power), P9 VSS (power), P10 VDDH (power), P14 VDDH (power), R3 VDDH (power), R9 VSS (power), R10 VSS (power), R15 VDDH (power), T2 VSS (power), T7 NC, T8 NC, T16 VSS (power), U1 VSS (power), U9 NC, U17 VSS (power)

## MC68LC302CPU16
designator U?
Low Cost Integrated Multiprotocol Processor; Published: 21-Mar-2003; LatestRevisionDate: 13-Apr-2006; LatestRevisionNote: IPC-7351 Footprint Added.; DatasheetVersion: Jan-1995; PackageVersion: 1999; PackageReference: 983-01; Publisher: Altium Limited; PackageDescription: 100-Pin Thin Quad Flat Pack 0.5 mm Pitch; ComponentLink1Description: Manufacturer Link; ComponentLink1URL: http://www.freescale.com/; ComponentLink2Description: Datasheet; ComponentLink2URL: http://www.freescale.com/files/netcomm/doc/data_sheet/MC68LC302.pdf
footprint 983-01_N (Thin QFP, 100-Leads, Body 14x14mm, Pitch 0.5mm, IPC Medium Density)
footprint 983-01_L (Thin QFP, 100-Leads, Body 14x14mm, Pitch 0.5mm, IPC High Density)
footprint 983-01_M (Thin QFP, 100-Leads, Body 14x14mm, Pitch 0.5mm, IPC Low Density)
3D model MC68LC302-983 (100-Pin Thin Quad Flat Pack 0.5 mm Pitch)
part A pins: 1 PB9 (io), 2 PB8 (io), 3 ~{WDOG}/PB7 (io), 4 ~{TOUT}2/PB6 (io), 5 TIN2/PB5 (io), 6 TIN1/PB3 (io), 8 ~{WEH}/A0 (~{UDS}/~{A}0) (io), 9 ~{WEL}/~{WE} (~{LDS}/~{DS}) (io), 11 ~{AS} (io), 12 ~{OE} (R/~{W}) (io), 15 ~{IPL}0/~{IRQ}1 (~{BR}) (io), 16 ~{IPL}1/~{IRQ}6 (~{BGACK}) (io), 17 ~{IPL}2/~{IRQ}7 (~{BG}) (in), 18 ~{EXTAL} (in), 19 ~{XTAL}, 20 ~{CLKO} (out), 21 ~{DISCPU} (in), 22 BUSW (in), 24 XFC, 26 ~{HALT} (io), 27 ~{RESET} (io), 28 ~{DTACK} (io), 29 ~{RTS}1/L1RQ/GCIDCL (out), 30 SPCLK/PA10 (io), 32 RCLK1/L1CLK (io), 33 TCLK1/L1SYS0/SDS1 (io), 34 TXD1/L1TXD (out), 35 MODCLK/PA12 (io), 37 SDS2/BRG2/PA7 (io), 38 ~{CD}2/PA6 (io), 39 ~{RTS}2/PA5 (io), 40 ~{CTS}2/PA4 (io), 41 TCLK2/PA3 (io), 43 RCLK2/PA2 (io), 44 TXD2/PA1 (io), 45 RXD2/PA0 (io), 46 SPTXD/PA9 (io), 47 SPRXD/PA8 (io), 48 RXD1/L1RXD (in), 49 ~{CTS}1/L1GR (in), 50 ~{CD}1/L1SY1 (in), 51 D0 (io), 52 D1 (io), 53 D2 (io), 54 D3 (io), 56 D4 (io), 57 D5 (io), 58 D6 (io), 59 D7 (io), 63 D8 (io), 64 D9 (io), 65 D10 (io), 66 D11 (io), 68 D12 (io), 69 D13 (io), 70 D14 (io), 71 D15 (io), 72 A19 (io), 73 A18 (io), 74 A17 (io), 75 A16 (io), 77 A15 (io), 78 A14 (io), 79 A13 (io), 80 A12 (io), 81 A11 (io), 82 A10 (io), 84 A9 (io), 85 A8 (io), 86 A7 (io), 87 A6 (io), 89 A5 (io), 90 A4 (io), 91 A3 (io), 92 A2 (io), 93 A1 (io), 94 ~{CS}0/~{IOUT}2 (out), 95 ~{CS}1 (out), 96 ~{CS}2 (out), 97 ~{CS}3 (out), 98 PB11 (io), 99 PB10 (io)
part B pins: 7 VCCP1 (power), 10 GNDP2 (power), 13 VCCQ1 (power), 14 GNDQ1 (power), 23 GNDSYN (power), 25 VCCSYN (power), 31 GNDS2 (power), 36 VCCS1 (power), 42 GNDS1 (power), 55 GNDD2 (power), 60 VCCD1 (power), 61 GNDQ2 (power), 62 VCCQ2 (power), 67 GNDD1 (power), 76 GNDA1 (power), 83 VCCA1 (power), 88 GNDA2 (power), 100 GNDP (power)

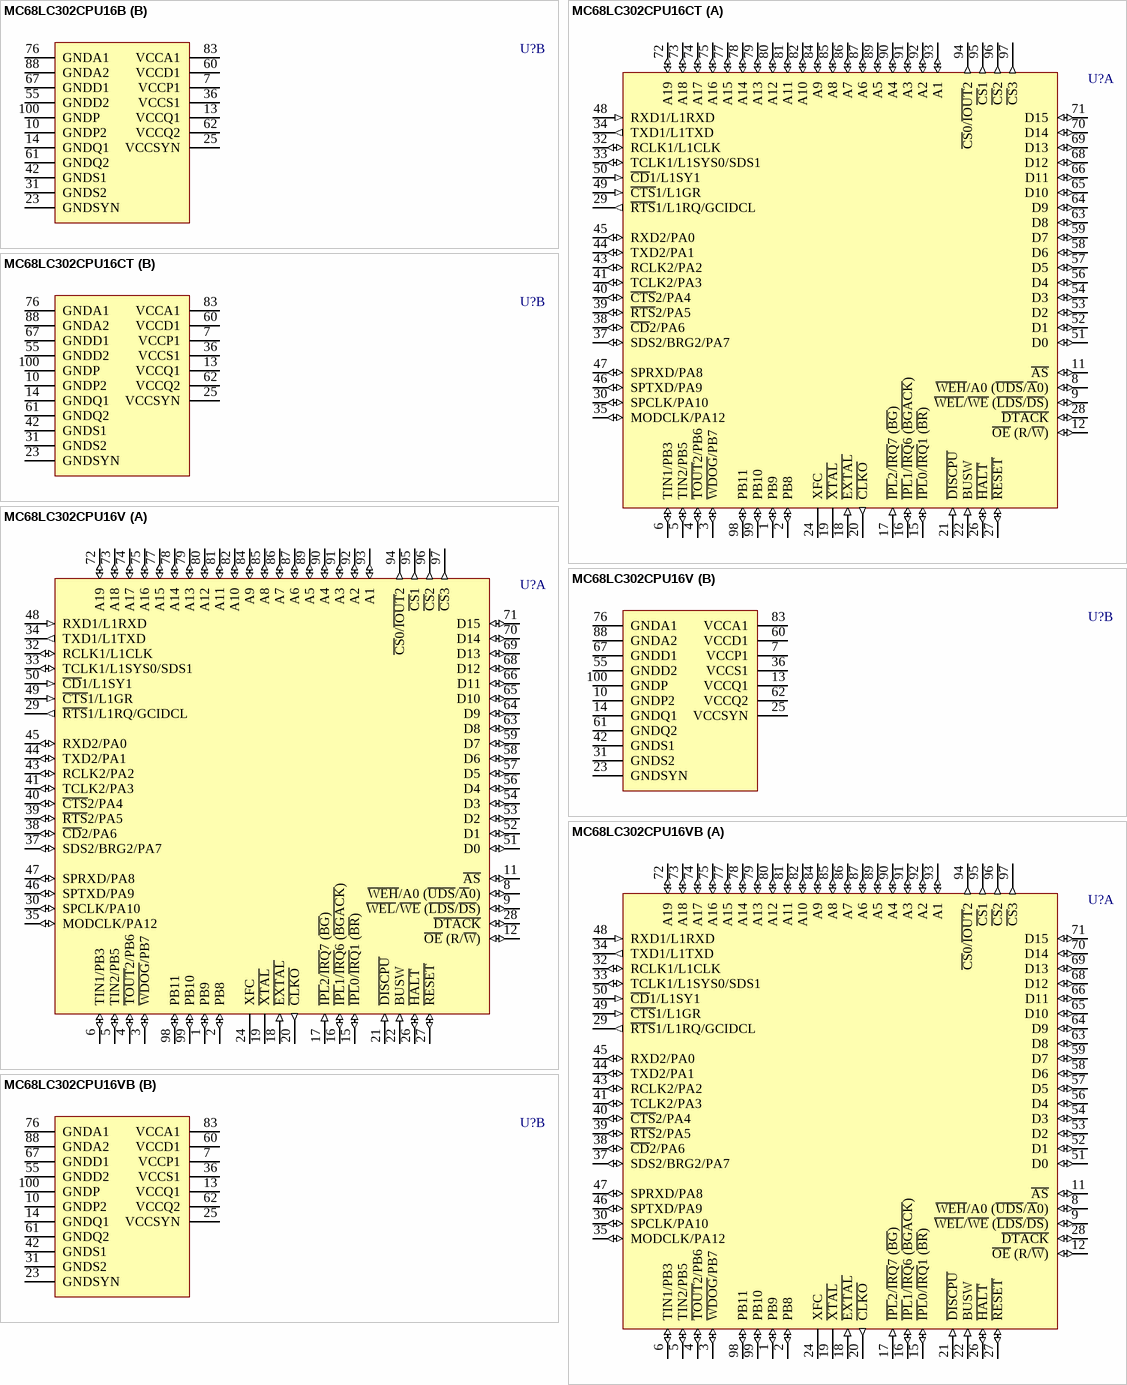
[diagram p31: symbols MC68LC302CPU16B to MC68LC302CPU16VB]

## MC68LC302CPU16B
designator U?
Low Power Integrated Multiprotocol Processor; Published: 21-Mar-2003; LatestRevisionDate: 13-Apr-2006; LatestRevisionNote: IPC-7351 Footprint Added.; DatasheetVersion: Jan-1995; PackageVersion: 1999; PackageReference: 983-01; Publisher: Altium Limited; PackageDescription: 100-Pin Thin Quad Flat Pack 0.5 mm Pitch; ComponentLink1Description: Manufacturer Link; ComponentLink1URL: http://www.freescale.com/; ComponentLink2Description: Datasheet; ComponentLink2URL: http://www.freescale.com/files/netcomm/doc/data_sheet/MC68LC302.pdf
footprint 983-01_N (Thin QFP, 100-Leads, Body 14x14mm, Pitch 0.5mm, IPC Medium Density)
footprint 983-01_L (Thin QFP, 100-Leads, Body 14x14mm, Pitch 0.5mm, IPC High Density)
footprint 983-01_M (Thin QFP, 100-Leads, Body 14x14mm, Pitch 0.5mm, IPC Low Density)
3D model MC68LC302-983 (100-Pin Thin Quad Flat Pack 0.5 mm Pitch)
part A pins: 1 PB9 (io), 2 PB8 (io), 3 ~{WDOG}/PB7 (io), 4 ~{TOUT}2/PB6 (io), 5 TIN2/PB5 (io), 6 TIN1/PB3 (io), 8 ~{WEH}/A0 (~{UDS}/~{A}0) (io), 9 ~{WEL}/~{WE} (~{LDS}/~{DS}) (io), 11 ~{AS} (io), 12 ~{OE} (R/~{W}) (io), 15 ~{IPL}0/~{IRQ}1 (~{BR}) (io), 16 ~{IPL}1/~{IRQ}6 (~{BGACK}) (io), 17 ~{IPL}2/~{IRQ}7 (~{BG}) (in), 18 ~{EXTAL} (in), 19 ~{XTAL}, 20 ~{CLKO} (out), 21 ~{DISCPU} (in), 22 BUSW (in), 24 XFC, 26 ~{HALT} (io), 27 ~{RESET} (io), 28 ~{DTACK} (io), 29 ~{RTS}1/L1RQ/GCIDCL (out), 30 SPCLK/PA10 (io), 32 RCLK1/L1CLK (io), 33 TCLK1/L1SYS0/SDS1 (io), 34 TXD1/L1TXD (out), 35 MODCLK/PA12 (io), 37 SDS2/BRG2/PA7 (io), 38 ~{CD}2/PA6 (io), 39 ~{RTS}2/PA5 (io), 40 ~{CTS}2/PA4 (io), 41 TCLK2/PA3 (io), 43 RCLK2/PA2 (io), 44 TXD2/PA1 (io), 45 RXD2/PA0 (io), 46 SPTXD/PA9 (io), 47 SPRXD/PA8 (io), 48 RXD1/L1RXD (in), 49 ~{CTS}1/L1GR (in), 50 ~{CD}1/L1SY1 (in), 51 D0 (io), 52 D1 (io), 53 D2 (io), 54 D3 (io), 56 D4 (io), 57 D5 (io), 58 D6 (io), 59 D7 (io), 63 D8 (io), 64 D9 (io), 65 D10 (io), 66 D11 (io), 68 D12 (io), 69 D13 (io), 70 D14 (io), 71 D15 (io), 72 A19 (io), 73 A18 (io), 74 A17 (io), 75 A16 (io), 77 A15 (io), 78 A14 (io), 79 A13 (io), 80 A12 (io), 81 A11 (io), 82 A10 (io), 84 A9 (io), 85 A8 (io), 86 A7 (io), 87 A6 (io), 89 A5 (io), 90 A4 (io), 91 A3 (io), 92 A2 (io), 93 A1 (io), 94 ~{CS}0/~{IOUT}2 (out), 95 ~{CS}1 (out), 96 ~{CS}2 (out), 97 ~{CS}3 (out), 98 PB11 (io), 99 PB10 (io)
part B pins: 7 VCCP1 (power), 10 GNDP2 (power), 13 VCCQ1 (power), 14 GNDQ1 (power), 23 GNDSYN (power), 25 VCCSYN (power), 31 GNDS2 (power), 36 VCCS1 (power), 42 GNDS1 (power), 55 GNDD2 (power), 60 VCCD1 (power), 61 GNDQ2 (power), 62 VCCQ2 (power), 67 GNDD1 (power), 76 GNDA1 (power), 83 VCCA1 (power), 88 GNDA2 (power), 100 GNDP (power)

## MC68LC302CPU16CT
designator U?
Low Power Integrated Multiprotocol Processor; Published: 21-Mar-2003; LatestRevisionDate: 13-Apr-2006; LatestRevisionNote: IPC-7351 Footprint Added.; DatasheetVersion: Jan-1995; PackageVersion: 1999; PackageReference: 983-01; Publisher: Altium Limited; PackageDescription: 100-Pin Thin Quad Flat Pack 0.5 mm Pitch; ComponentLink1Description: Manufacturer Link; ComponentLink1URL: http://www.freescale.com/; ComponentLink2Description: Datasheet; ComponentLink2URL: http://www.freescale.com/files/netcomm/doc/data_sheet/MC68LC302.pdf
footprint 983-01_N (Thin QFP, 100-Leads, Body 14x14mm, Pitch 0.5mm, IPC Medium Density)
footprint 983-01_L (Thin QFP, 100-Leads, Body 14x14mm, Pitch 0.5mm, IPC High Density)
footprint 983-01_M (Thin QFP, 100-Leads, Body 14x14mm, Pitch 0.5mm, IPC Low Density)
3D model MC68LC302-983 (100-Pin Thin Quad Flat Pack 0.5 mm Pitch)
part A pins: 1 PB9 (io), 2 PB8 (io), 3 ~{WDOG}/PB7 (io), 4 ~{TOUT}2/PB6 (io), 5 TIN2/PB5 (io), 6 TIN1/PB3 (io), 8 ~{WEH}/A0 (~{UDS}/~{A}0) (io), 9 ~{WEL}/~{WE} (~{LDS}/~{DS}) (io), 11 ~{AS} (io), 12 ~{OE} (R/~{W}) (io), 15 ~{IPL}0/~{IRQ}1 (~{BR}) (io), 16 ~{IPL}1/~{IRQ}6 (~{BGACK}) (io), 17 ~{IPL}2/~{IRQ}7 (~{BG}) (in), 18 ~{EXTAL} (in), 19 ~{XTAL}, 20 ~{CLKO} (out), 21 ~{DISCPU} (in), 22 BUSW (in), 24 XFC, 26 ~{HALT} (io), 27 ~{RESET} (io), 28 ~{DTACK} (io), 29 ~{RTS}1/L1RQ/GCIDCL (out), 30 SPCLK/PA10 (io), 32 RCLK1/L1CLK (io), 33 TCLK1/L1SYS0/SDS1 (io), 34 TXD1/L1TXD (out), 35 MODCLK/PA12 (io), 37 SDS2/BRG2/PA7 (io), 38 ~{CD}2/PA6 (io), 39 ~{RTS}2/PA5 (io), 40 ~{CTS}2/PA4 (io), 41 TCLK2/PA3 (io), 43 RCLK2/PA2 (io), 44 TXD2/PA1 (io), 45 RXD2/PA0 (io), 46 SPTXD/PA9 (io), 47 SPRXD/PA8 (io), 48 RXD1/L1RXD (in), 49 ~{CTS}1/L1GR (in), 50 ~{CD}1/L1SY1 (in), 51 D0 (io), 52 D1 (io), 53 D2 (io), 54 D3 (io), 56 D4 (io), 57 D5 (io), 58 D6 (io), 59 D7 (io), 63 D8 (io), 64 D9 (io), 65 D10 (io), 66 D11 (io), 68 D12 (io), 69 D13 (io), 70 D14 (io), 71 D15 (io), 72 A19 (io), 73 A18 (io), 74 A17 (io), 75 A16 (io), 77 A15 (io), 78 A14 (io), 79 A13 (io), 80 A12 (io), 81 A11 (io), 82 A10 (io), 84 A9 (io), 85 A8 (io), 86 A7 (io), 87 A6 (io), 89 A5 (io), 90 A4 (io), 91 A3 (io), 92 A2 (io), 93 A1 (io), 94 ~{CS}0/~{IOUT}2 (out), 95 ~{CS}1 (out), 96 ~{CS}2 (out), 97 ~{CS}3 (out), 98 PB11 (io), 99 PB10 (io)
part B pins: 7 VCCP1 (power), 10 GNDP2 (power), 13 VCCQ1 (power), 14 GNDQ1 (power), 23 GNDSYN (power), 25 VCCSYN (power), 31 GNDS2 (power), 36 VCCS1 (power), 42 GNDS1 (power), 55 GNDD2 (power), 60 VCCD1 (power), 61 GNDQ2 (power), 62 VCCQ2 (power), 67 GNDD1 (power), 76 GNDA1 (power), 83 VCCA1 (power), 88 GNDA2 (power), 100 GNDP (power)

## MC68LC302CPU16V
designator U?
Low Cost Integrated Multiprotocol Processor; Published: 21-Mar-2003; LatestRevisionDate: 13-Apr-2006; LatestRevisionNote: IPC-7351 Footprint Added.; DatasheetVersion: Jan-1995; PackageVersion: 1999; PackageReference: 983-01; Publisher: Altium Limited; PackageDescription: 100-Pin Thin Quad Flat Pack 0.5 mm Pitch; ComponentLink1Description: Manufacturer Link; ComponentLink1URL: http://www.freescale.com/; ComponentLink2Description: Datasheet; ComponentLink2URL: http://www.freescale.com/files/netcomm/doc/data_sheet/MC68LC302.pdf
footprint 983-01_N (Thin QFP, 100-Leads, Body 14x14mm, Pitch 0.5mm, IPC Medium Density)
footprint 983-01_L (Thin QFP, 100-Leads, Body 14x14mm, Pitch 0.5mm, IPC High Density)
footprint 983-01_M (Thin QFP, 100-Leads, Body 14x14mm, Pitch 0.5mm, IPC Low Density)
3D model MC68LC302-983 (100-Pin Thin Quad Flat Pack 0.5 mm Pitch)
part A pins: 1 PB9 (io), 2 PB8 (io), 3 ~{WDOG}/PB7 (io), 4 ~{TOUT}2/PB6 (io), 5 TIN2/PB5 (io), 6 TIN1/PB3 (io), 8 ~{WEH}/A0 (~{UDS}/~{A}0) (io), 9 ~{WEL}/~{WE} (~{LDS}/~{DS}) (io), 11 ~{AS} (io), 12 ~{OE} (R/~{W}) (io), 15 ~{IPL}0/~{IRQ}1 (~{BR}) (io), 16 ~{IPL}1/~{IRQ}6 (~{BGACK}) (io), 17 ~{IPL}2/~{IRQ}7 (~{BG}) (in), 18 ~{EXTAL} (in), 19 ~{XTAL}, 20 ~{CLKO} (out), 21 ~{DISCPU} (in), 22 BUSW (in), 24 XFC, 26 ~{HALT} (io), 27 ~{RESET} (io), 28 ~{DTACK} (io), 29 ~{RTS}1/L1RQ/GCIDCL (out), 30 SPCLK/PA10 (io), 32 RCLK1/L1CLK (io), 33 TCLK1/L1SYS0/SDS1 (io), 34 TXD1/L1TXD (out), 35 MODCLK/PA12 (io), 37 SDS2/BRG2/PA7 (io), 38 ~{CD}2/PA6 (io), 39 ~{RTS}2/PA5 (io), 40 ~{CTS}2/PA4 (io), 41 TCLK2/PA3 (io), 43 RCLK2/PA2 (io), 44 TXD2/PA1 (io), 45 RXD2/PA0 (io), 46 SPTXD/PA9 (io), 47 SPRXD/PA8 (io), 48 RXD1/L1RXD (in), 49 ~{CTS}1/L1GR (in), 50 ~{CD}1/L1SY1 (in), 51 D0 (io), 52 D1 (io), 53 D2 (io), 54 D3 (io), 56 D4 (io), 57 D5 (io), 58 D6 (io), 59 D7 (io), 63 D8 (io), 64 D9 (io), 65 D10 (io), 66 D11 (io), 68 D12 (io), 69 D13 (io), 70 D14 (io), 71 D15 (io), 72 A19 (io), 73 A18 (io), 74 A17 (io), 75 A16 (io), 77 A15 (io), 78 A14 (io), 79 A13 (io), 80 A12 (io), 81 A11 (io), 82 A10 (io), 84 A9 (io), 85 A8 (io), 86 A7 (io), 87 A6 (io), 89 A5 (io), 90 A4 (io), 91 A3 (io), 92 A2 (io), 93 A1 (io), 94 ~{CS}0/~{IOUT}2 (out), 95 ~{CS}1 (out), 96 ~{CS}2 (out), 97 ~{CS}3 (out), 98 PB11 (io), 99 PB10 (io)
part B pins: 7 VCCP1 (power), 10 GNDP2 (power), 13 VCCQ1 (power), 14 GNDQ1 (power), 23 GNDSYN (power), 25 VCCSYN (power), 31 GNDS2 (power), 36 VCCS1 (power), 42 GNDS1 (power), 55 GNDD2 (power), 60 VCCD1 (power), 61 GNDQ2 (power), 62 VCCQ2 (power), 67 GNDD1 (power), 76 GNDA1 (power), 83 VCCA1 (power), 88 GNDA2 (power), 100 GNDP (power)

## MC68LC302CPU16VB
designator U?
Low Power Integrated Multiprotocol Processor; Published: 21-Mar-2003; LatestRevisionDate: 13-Apr-2006; LatestRevisionNote: IPC-7351 Footprint Added.; DatasheetVersion: Jan-1995; PackageVersion: 1999; PackageReference: 983-01; Publisher: Altium Limited; PackageDescription: 100-Pin Thin Quad Flat Pack 0.5 mm Pitch; ComponentLink1Description: Manufacturer Link; ComponentLink1URL: http://www.freescale.com/; ComponentLink2Description: Datasheet; ComponentLink2URL: http://www.freescale.com/files/netcomm/doc/data_sheet/MC68LC302.pdf
footprint 983-01_N (Thin QFP, 100-Leads, Body 14x14mm, Pitch 0.5mm, IPC Medium Density)
footprint 983-01_L (Thin QFP, 100-Leads, Body 14x14mm, Pitch 0.5mm, IPC High Density)
footprint 983-01_M (Thin QFP, 100-Leads, Body 14x14mm, Pitch 0.5mm, IPC Low Density)
3D model MC68LC302-983 (100-Pin Thin Quad Flat Pack 0.5 mm Pitch)
part A pins: 1 PB9 (io), 2 PB8 (io), 3 ~{WDOG}/PB7 (io), 4 ~{TOUT}2/PB6 (io), 5 TIN2/PB5 (io), 6 TIN1/PB3 (io), 8 ~{WEH}/A0 (~{UDS}/~{A}0) (io), 9 ~{WEL}/~{WE} (~{LDS}/~{DS}) (io), 11 ~{AS} (io), 12 ~{OE} (R/~{W}) (io), 15 ~{IPL}0/~{IRQ}1 (~{BR}) (io), 16 ~{IPL}1/~{IRQ}6 (~{BGACK}) (io), 17 ~{IPL}2/~{IRQ}7 (~{BG}) (in), 18 ~{EXTAL} (in), 19 ~{XTAL}, 20 ~{CLKO} (out), 21 ~{DISCPU} (in), 22 BUSW (in), 24 XFC, 26 ~{HALT} (io), 27 ~{RESET} (io), 28 ~{DTACK} (io), 29 ~{RTS}1/L1RQ/GCIDCL (out), 30 SPCLK/PA10 (io), 32 RCLK1/L1CLK (io), 33 TCLK1/L1SYS0/SDS1 (io), 34 TXD1/L1TXD (out), 35 MODCLK/PA12 (io), 37 SDS2/BRG2/PA7 (io), 38 ~{CD}2/PA6 (io), 39 ~{RTS}2/PA5 (io), 40 ~{CTS}2/PA4 (io), 41 TCLK2/PA3 (io), 43 RCLK2/PA2 (io), 44 TXD2/PA1 (io), 45 RXD2/PA0 (io), 46 SPTXD/PA9 (io), 47 SPRXD/PA8 (io), 48 RXD1/L1RXD (in), 49 ~{CTS}1/L1GR (in), 50 ~{CD}1/L1SY1 (in), 51 D0 (io), 52 D1 (io), 53 D2 (io), 54 D3 (io), 56 D4 (io), 57 D5 (io), 58 D6 (io), 59 D7 (io), 63 D8 (io), 64 D9 (io), 65 D10 (io), 66 D11 (io), 68 D12 (io), 69 D13 (io), 70 D14 (io), 71 D15 (io), 72 A19 (io), 73 A18 (io), 74 A17 (io), 75 A16 (io), 77 A15 (io), 78 A14 (io), 79 A13 (io), 80 A12 (io), 81 A11 (io), 82 A10 (io), 84 A9 (io), 85 A8 (io), 86 A7 (io), 87 A6 (io), 89 A5 (io), 90 A4 (io), 91 A3 (io), 92 A2 (io), 93 A1 (io), 94 ~{CS}0/~{IOUT}2 (out), 95 ~{CS}1 (out), 96 ~{CS}2 (out), 97 ~{CS}3 (out), 98 PB11 (io), 99 PB10 (io)
part B pins: 7 VCCP1 (power), 10 GNDP2 (power), 13 VCCQ1 (power), 14 GNDQ1 (power), 23 GNDSYN (power), 25 VCCSYN (power), 31 GNDS2 (power), 36 VCCS1 (power), 42 GNDS1 (power), 55 GNDD2 (power), 60 VCCD1 (power), 61 GNDQ2 (power), 62 VCCQ2 (power), 67 GNDD1 (power), 76 GNDA1 (power), 83 VCCA1 (power), 88 GNDA2 (power), 100 GNDP (power)

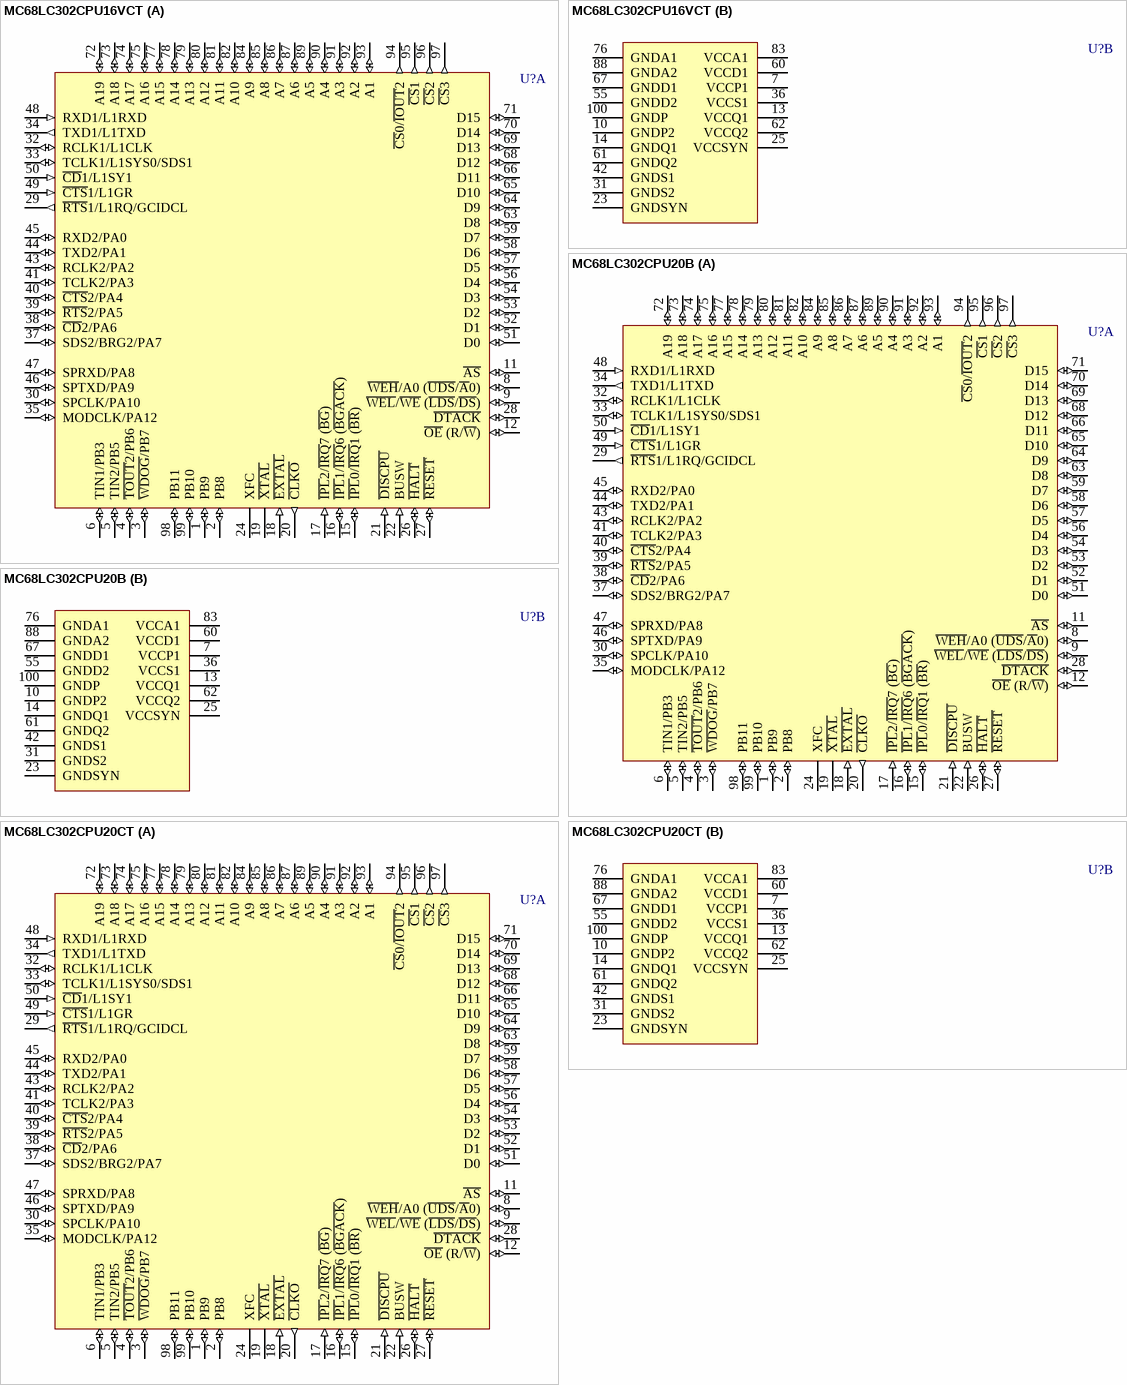
[diagram p32: symbols MC68LC302CPU16VCT to MC68LC302CPU20CT]

## MC68LC302CPU16VCT
designator U?
Low Power Integrated Multiprotocol Processor; Published: 21-Mar-2003; LatestRevisionDate: 13-Apr-2006; LatestRevisionNote: IPC-7351 Footprint Added.; DatasheetVersion: Jan-1995; PackageVersion: 1999; PackageReference: 983-01; Publisher: Altium Limited; PackageDescription: 100-Pin Thin Quad Flat Pack 0.5 mm Pitch; ComponentLink1Description: Manufacturer Link; ComponentLink1URL: http://www.freescale.com/; ComponentLink2Description: Datasheet; ComponentLink2URL: http://www.freescale.com/files/netcomm/doc/data_sheet/MC68LC302.pdf
footprint 983-01_N (Thin QFP, 100-Leads, Body 14x14mm, Pitch 0.5mm, IPC Medium Density)
footprint 983-01_L (Thin QFP, 100-Leads, Body 14x14mm, Pitch 0.5mm, IPC High Density)
footprint 983-01_M (Thin QFP, 100-Leads, Body 14x14mm, Pitch 0.5mm, IPC Low Density)
3D model MC68LC302-983 (100-Pin Thin Quad Flat Pack 0.5 mm Pitch)
part A pins: 1 PB9 (io), 2 PB8 (io), 3 ~{WDOG}/PB7 (io), 4 ~{TOUT}2/PB6 (io), 5 TIN2/PB5 (io), 6 TIN1/PB3 (io), 8 ~{WEH}/A0 (~{UDS}/~{A}0) (io), 9 ~{WEL}/~{WE} (~{LDS}/~{DS}) (io), 11 ~{AS} (io), 12 ~{OE} (R/~{W}) (io), 15 ~{IPL}0/~{IRQ}1 (~{BR}) (io), 16 ~{IPL}1/~{IRQ}6 (~{BGACK}) (io), 17 ~{IPL}2/~{IRQ}7 (~{BG}) (in), 18 ~{EXTAL} (in), 19 ~{XTAL}, 20 ~{CLKO} (out), 21 ~{DISCPU} (in), 22 BUSW (in), 24 XFC, 26 ~{HALT} (io), 27 ~{RESET} (io), 28 ~{DTACK} (io), 29 ~{RTS}1/L1RQ/GCIDCL (out), 30 SPCLK/PA10 (io), 32 RCLK1/L1CLK (io), 33 TCLK1/L1SYS0/SDS1 (io), 34 TXD1/L1TXD (out), 35 MODCLK/PA12 (io), 37 SDS2/BRG2/PA7 (io), 38 ~{CD}2/PA6 (io), 39 ~{RTS}2/PA5 (io), 40 ~{CTS}2/PA4 (io), 41 TCLK2/PA3 (io), 43 RCLK2/PA2 (io), 44 TXD2/PA1 (io), 45 RXD2/PA0 (io), 46 SPTXD/PA9 (io), 47 SPRXD/PA8 (io), 48 RXD1/L1RXD (in), 49 ~{CTS}1/L1GR (in), 50 ~{CD}1/L1SY1 (in), 51 D0 (io), 52 D1 (io), 53 D2 (io), 54 D3 (io), 56 D4 (io), 57 D5 (io), 58 D6 (io), 59 D7 (io), 63 D8 (io), 64 D9 (io), 65 D10 (io), 66 D11 (io), 68 D12 (io), 69 D13 (io), 70 D14 (io), 71 D15 (io), 72 A19 (io), 73 A18 (io), 74 A17 (io), 75 A16 (io), 77 A15 (io), 78 A14 (io), 79 A13 (io), 80 A12 (io), 81 A11 (io), 82 A10 (io), 84 A9 (io), 85 A8 (io), 86 A7 (io), 87 A6 (io), 89 A5 (io), 90 A4 (io), 91 A3 (io), 92 A2 (io), 93 A1 (io), 94 ~{CS}0/~{IOUT}2 (out), 95 ~{CS}1 (out), 96 ~{CS}2 (out), 97 ~{CS}3 (out), 98 PB11 (io), 99 PB10 (io)
part B pins: 7 VCCP1 (power), 10 GNDP2 (power), 13 VCCQ1 (power), 14 GNDQ1 (power), 23 GNDSYN (power), 25 VCCSYN (power), 31 GNDS2 (power), 36 VCCS1 (power), 42 GNDS1 (power), 55 GNDD2 (power), 60 VCCD1 (power), 61 GNDQ2 (power), 62 VCCQ2 (power), 67 GNDD1 (power), 76 GNDA1 (power), 83 VCCA1 (power), 88 GNDA2 (power), 100 GNDP (power)

## MC68LC302CPU20B
designator U?
Low Power Integrated Multiprotocol Processor; Published: 21-Mar-2003; LatestRevisionDate: 13-Apr-2006; LatestRevisionNote: IPC-7351 Footprint Added.; DatasheetVersion: Jan-1995; PackageVersion: 1999; PackageReference: 983-01; Publisher: Altium Limited; PackageDescription: 100-Pin Thin Quad Flat Pack 0.5 mm Pitch; ComponentLink1Description: Manufacturer Link; ComponentLink1URL: http://www.freescale.com/; ComponentLink2Description: Datasheet; ComponentLink2URL: http://www.freescale.com/files/netcomm/doc/data_sheet/MC68LC302.pdf
footprint 983-01_N (Thin QFP, 100-Leads, Body 14x14mm, Pitch 0.5mm, IPC Medium Density)
footprint 983-01_L (Thin QFP, 100-Leads, Body 14x14mm, Pitch 0.5mm, IPC High Density)
footprint 983-01_M (Thin QFP, 100-Leads, Body 14x14mm, Pitch 0.5mm, IPC Low Density)
3D model MC68LC302-983 (100-Pin Thin Quad Flat Pack 0.5 mm Pitch)
part A pins: 1 PB9 (io), 2 PB8 (io), 3 ~{WDOG}/PB7 (io), 4 ~{TOUT}2/PB6 (io), 5 TIN2/PB5 (io), 6 TIN1/PB3 (io), 8 ~{WEH}/A0 (~{UDS}/~{A}0) (io), 9 ~{WEL}/~{WE} (~{LDS}/~{DS}) (io), 11 ~{AS} (io), 12 ~{OE} (R/~{W}) (io), 15 ~{IPL}0/~{IRQ}1 (~{BR}) (io), 16 ~{IPL}1/~{IRQ}6 (~{BGACK}) (io), 17 ~{IPL}2/~{IRQ}7 (~{BG}) (in), 18 ~{EXTAL} (in), 19 ~{XTAL}, 20 ~{CLKO} (out), 21 ~{DISCPU} (in), 22 BUSW (in), 24 XFC, 26 ~{HALT} (io), 27 ~{RESET} (io), 28 ~{DTACK} (io), 29 ~{RTS}1/L1RQ/GCIDCL (out), 30 SPCLK/PA10 (io), 32 RCLK1/L1CLK (io), 33 TCLK1/L1SYS0/SDS1 (io), 34 TXD1/L1TXD (out), 35 MODCLK/PA12 (io), 37 SDS2/BRG2/PA7 (io), 38 ~{CD}2/PA6 (io), 39 ~{RTS}2/PA5 (io), 40 ~{CTS}2/PA4 (io), 41 TCLK2/PA3 (io), 43 RCLK2/PA2 (io), 44 TXD2/PA1 (io), 45 RXD2/PA0 (io), 46 SPTXD/PA9 (io), 47 SPRXD/PA8 (io), 48 RXD1/L1RXD (in), 49 ~{CTS}1/L1GR (in), 50 ~{CD}1/L1SY1 (in), 51 D0 (io), 52 D1 (io), 53 D2 (io), 54 D3 (io), 56 D4 (io), 57 D5 (io), 58 D6 (io), 59 D7 (io), 63 D8 (io), 64 D9 (io), 65 D10 (io), 66 D11 (io), 68 D12 (io), 69 D13 (io), 70 D14 (io), 71 D15 (io), 72 A19 (io), 73 A18 (io), 74 A17 (io), 75 A16 (io), 77 A15 (io), 78 A14 (io), 79 A13 (io), 80 A12 (io), 81 A11 (io), 82 A10 (io), 84 A9 (io), 85 A8 (io), 86 A7 (io), 87 A6 (io), 89 A5 (io), 90 A4 (io), 91 A3 (io), 92 A2 (io), 93 A1 (io), 94 ~{CS}0/~{IOUT}2 (out), 95 ~{CS}1 (out), 96 ~{CS}2 (out), 97 ~{CS}3 (out), 98 PB11 (io), 99 PB10 (io)
part B pins: 7 VCCP1 (power), 10 GNDP2 (power), 13 VCCQ1 (power), 14 GNDQ1 (power), 23 GNDSYN (power), 25 VCCSYN (power), 31 GNDS2 (power), 36 VCCS1 (power), 42 GNDS1 (power), 55 GNDD2 (power), 60 VCCD1 (power), 61 GNDQ2 (power), 62 VCCQ2 (power), 67 GNDD1 (power), 76 GNDA1 (power), 83 VCCA1 (power), 88 GNDA2 (power), 100 GNDP (power)